# Altium schematic symbol library MGMEZZ04.SchLib: 81 symbols
Pins are listed as number, name and electrical type; pins without a type are passive.

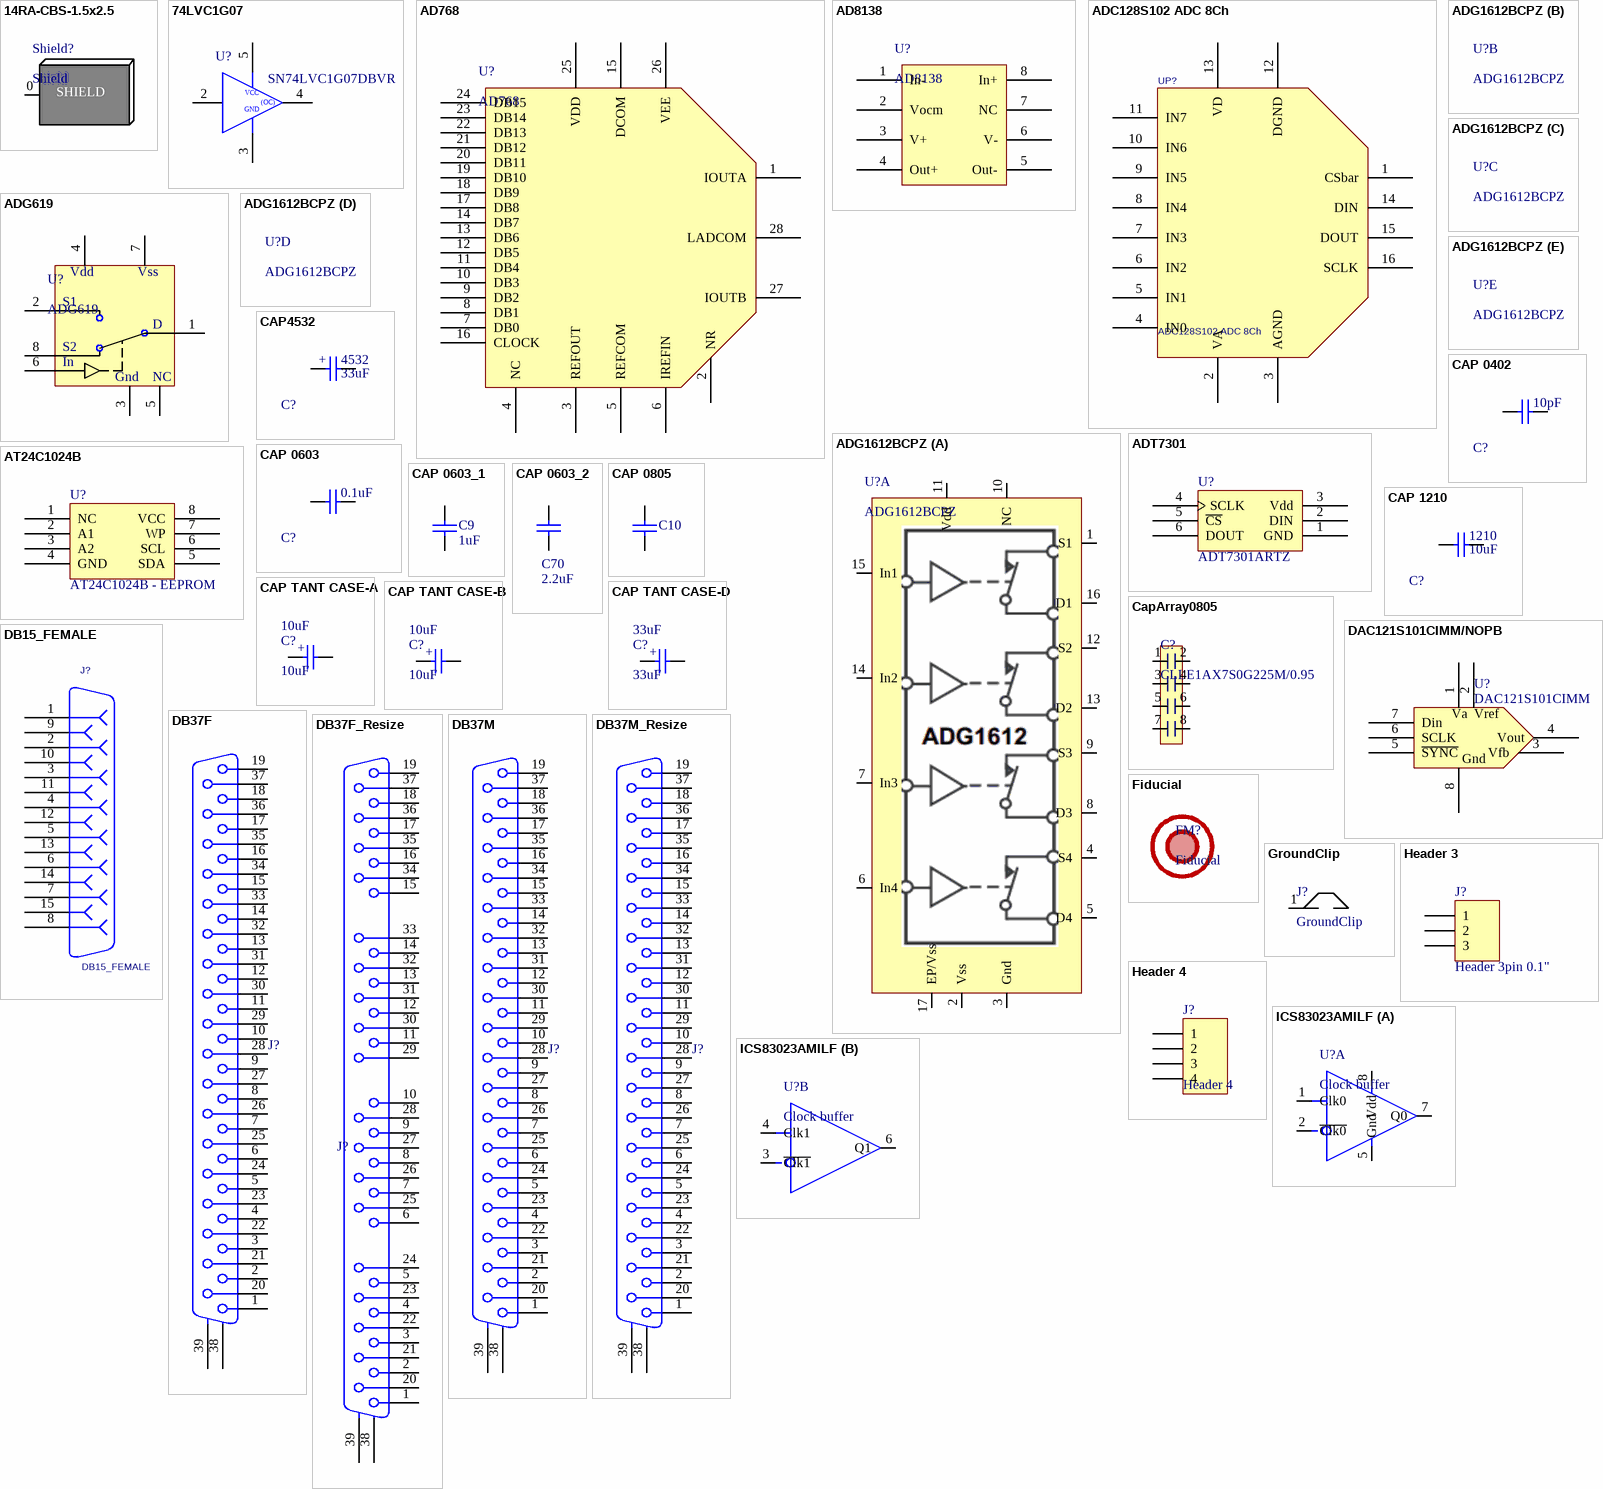
[diagram p0: symbols 14RA-CBS-1.5x2.5 to ICS83023AMILF]

## 14RA-CBS-1.5x2.5
designator Shield?, comment Shield
14RA-CBS-1.5x2.5 Shield (Assembled fence + cover); Manufacturer: Leadertech; Supplier 1: Leadertech; Supplier Part Number 1: 14RA-CBS-1.5x2.5 Shield (Assembled fence + cover); Part Constraints: 14RA-CBS-1.5x2.5 Shield (Assembled fence + cover)
footprint 14RA-CBS-1.5x2.5 Shield
pins: 0 Ground
text: SHIELD

## 74LVC1G07
designator U?  Manufacturers Part Number: SN74LVC1G07DBVR  (hidden comment: 74LVC1G07)
Single  NON-INVERTING BUFFER, Open Drain; Manufacturer: Texas Instruments; Assembly Comments: none; Part Constraints: SN74LVC1G07DBVR; SupplierUnitCost: $0.09; Type: IC; Supplier 1: Digi-Key; Supplier Part Number 1: 296-8485-1-ND
footprint SOT23-5
pins: 2 A, 3 Gnd (power), 4 Y, 5 Vcc (power)
text: VCC; (OC); GND

## AD768
designator U?
DAC 16bit 30MSPS; Manufacturers Part Number: AD768ARZ; Manufacturer: Analog Devices; Assembly Comments: none; Part Constraints: AD768ARZ; Supplier 1: Digi-Key; Supplier Part Number 1: AD768ARZ-ND; Type: IC; SupplierUnitCost: $46.27
footprint SOIC 28 300mils (SOIC, 28-Leads, Body 18.1x7.6mm (max), Pitch 1.27mm, IPC Medium Density)
pins: 1 IOUTA, 2 NR, 3 REFOUT, 4 NC, 5 REFCOM, 6 IREFIN, 7 DB0, 8 DB1, 9 DB2, 10 DB3, 11 DB4, 12 DB5, 13 DB6, 14 DB7, 15 DCOM, 16 CLOCK, 17 DB8, 18 DB9, 19 DB10, 20 DB11, 21 DB12, 22 DB13, 23 DB14, 24 DB15, 25 VDD, 26 VEE, 27 IOUTB, 28 LADCOM

## AD8138
designator U?
IC AMP DIFF LDIST LP 95MA 8SOIC; Manufacturer: Analog Devices Inc; Manufacturers Part Number: AD8138ARZ; Assembly Comments: none; Supplier 1: Digi-Key; RoHS: RoHS Compliant; Category: Integrated Circuits (ICs); Type: IC; Applications: Data Acquisition; Mounting Type: Surface Mount; Package / Case: 8-SOIC (0.154", 3.90mm Width); Supplier Device Package: 8-SOIC; Packaging: Tube; ComponentLink1URL: http://www.analog.com/static/imported-files/data_sheets/AD8138.pdf; ComponentLink1Description: http://www.analog.com/static/imported-files/data_sheets/AD8138.pdf; Part Constraints: AD8138ARZ; SupplierUnitCost: $6.44
footprint SO8
pins: 1 In-, 2 Vocm, 3 V+, 4 Out+, 5 Out-, 6 V-, 7 NC, 8 In+
1 alternate drawing of the same symbol

## ADC128S102 ADC 8Ch
designator UP?
ADC 8CH SPI; Part Constraints: ADC128S102CIMT/NOPB; Manufacturer: National Semiconductor; Assembly Comments: none; Manufacturer Part Number: ADC128S102CIMT/NOPB; Type: Capacitor; SupplierUnitCost: $7.29
footprint TSSOP16
footprint TSSOP16
pins: 1 CSbar, 2 VA, 3 AGND, 4 IN0, 5 IN1, 6 IN2, 7 IN3, 8 IN4, 9 IN5, 10 IN6, 11 IN7, 12 DGND, 13 VD, 14 DIN, 15 DOUT, 16 SCLK

## ADG619
designator U?
SPDT Switch +-5V 4 Ohm on resistance; Manufacturer: Analog Devices; Manufacturers Part Number: ADG619BRTZ; Assembly Comments: none; Part Constraints: ADG619BRTZ; Type: IC; SupplierUnitCost: $3.05
footprint SOT23-8
pins: 1 D, 2 S1, 3 Gnd, 4 Vdd (power), 5 NC (power), 6 In (power), 7 Vss (power), 8 S2
1 alternate drawing of the same symbol

## ADG1612BCPZ
designator U?
Switch 4 SPST-NO - VQFN package; Manufacturer 1: Analog Devices Inc; Manufacturer Part Number 1: ADG1612BCPZ-REEL7; Description 1: IC SWITCH QUAD SPST 16LFCSP; Category 1: Integrated Circuits (ICs); Circuit: 4 x SPST - NO; On-State Resistance: 1.1 Ohm; Voltage Supply Source: Single, Dual Supply; Voltage - Supply, Single/Dual (±): 3.3 V ~ 16 V, ±1.65 V ~ 4 V; Current - Supply: 320µA; Supplier 1: Digi-Key; RoHS 1: RoHS Compliant; Stock 1: 3133; Pricing 1: 1=5.04, 10=4.512, 25=4.0564, 100=3.6894, 250=3.33964, 500=2.98996 (CAD); Function: Switch; Operating Temperature: -40°C ~ 125°C; Mounting Type: Surface Mount; Package / Case: 16-VQFN Exposed Pad, CSP; Supplier Device Package: 16-LFCSP-VQ (4x4); Packaging: Cut Tape (CT); ComponentLink1URL: http://www.analog.com/static/imported-files/data_sheets/ADG1611_1612_1613.pdf; ComponentLink1Description: http://www.analog.com/static/imported-files/data_sheets/ADG1611_1612_1613.pdf; Supplier Part Number 1: ADG1612BCPZ-REEL7CT-ND
footprint QFN127P600-8N (16-VQFN Exposed Pad for ADG1612)
part A pins: 1 S1, 2 Vss, 3 Gnd, 4 S4, 5 D4, 6 In4, 7 In3, 8 D3, 9 S3, 10 NC, 11 Vdd, 12 S2, 13 D2, 14 In2, 15 In1, 16 D1, 17 EP/Vss
1 alternate drawing of the same symbol

## ADT7301
designator U?, comment ADT7301ARTZ
Digital Temperature Sensor, 13-Bit, +/-1 Degree Accurate; Manufacturer: Analog Devices; Assembly Comments: none; Manufacturers Part Number: ADT7301ARTZ; Part Constraints: ADT7301ARTZ; Type: IC; SupplierUnitCost: $3.51
footprint SOT23-6
pins: 1 GND (power), 2 DIN, 3 Vdd (power), 4 SCLK, 5 ~{CS}, 6 DOUT

## AT24C1024B
designator U?, comment AT24C1024B - EEPROM
IC EEPROM 1MBIT 1MHZ 8SOIC; Manufacturers P/N: AT24C1024BN-SH-B; Manufacturer: Atmel; CanPurchaseFrom: Digikey
footprint SO8/L200
pins: 1 NC, 2 A1, 3 A2, 4 GND, 5 SDA, 6 SCL, 7 WP, 8 VCC

## CAP4532
designator C?, comment Footprint: 4532  (hidden comment: 33uF)
33u, 16V, 20%, 4532C, X5R; Type: Capacitor; Assembly Comments: none; Part Constraints: 33u, 16V, 20%, 4532C, X5R; Supplier 1: Digi-Key; Supplier Part Number 1: 445-1443-1-ND; Value: 33uF
footprint TANT4532
pins: 1, 2
text: +

## CAP 0402
designator C?, comment 10pF
Capacitor, Ceramic, 0603; Part Constraints: 10% 16V X7R 0402; Manufacturer: Generic; Assembly Comments: none; Manufacturers Part Number: Generic; Type: Capacitor; SupplierUnitCost: 0; Value: 10pF
footprint 0402
pins: 1, 2

## CAP 0603
designator C?, comment 0.1uF
Capacitor, Ceramic, 0603; Part Constraints: 10% 16V X7R 0603; Manufacturer: Generic; Assembly Comments: none; Manufacturers Part Number: Generic; Type: Capacitor; SupplierUnitCost: 0; Value: 0.1uF
footprint 0603
pins: 1, 2

## CAP 0603_1
designator C9, comment 1uF
Capacitor, Ceramic, 0603; Part Constraints: 10% 16V X7R 0603; Manufacturer: Generic; Assembly Comments: none; Manufacturers Part Number: Generic; Type: Capacitor; SupplierUnitCost: 0; Value: 1uF
footprint 0603
pins: 1, 2

## CAP 0603_2
designator C70, comment 2.2uF
Capacitor, Ceramic, 0603; Part Constraints: 10% 6.3V X5R 0603; Manufacturer: Generic; Manufacturer 1: TDK Corporation; Manufacturer Part Number 1: C1608X5R0J225K080AB; Assembly Comments: none; Description 1: CAP CER 2.2UF 6.3V 10% X5R 0603; Category 1: Capacitors; Capacitance: 2.2µF; Voltage - Rated: 6.3V; Tolerance: ±10%; Temperature Coefficient: X5R; Manufacturers Part Number: Generic; Type: Capacitor; SupplierUnitCost: 0; Supplier 1: Digi-Key; Supplier Part Number 1: 445-5175-1-ND; RoHS 1: RoHS Compliant; Stock 1: 82331; Pricing 1: 1=0.18, 10=0.122, 100=0.0581, 250=0.04884, 500=0.04092, 1000=0.03358 (CAD); Mounting Type: Surface Mount, MLCC; Operating Temperature: -55°C ~ 85°C; Applications: General Purpose; Ratings: -; Package / Case: 0603 (1608 Metric); Size / Dimension: 0.063" L x 0.031" W (1.60mm x 0.80mm); Height - Seated (Max): -; Thickness (Max): 0.037" (0.95mm); Lead Spacing: -; Features: -; Packaging: Cut Tape (CT); Lead Style: -; ComponentLink1URL: http://product.tdk.com/capacitor/mlcc/en/documents/mlcc_commercial_general_en.pdf; ComponentLink1Description: http://product.tdk.com/capacitor/mlcc/en/documents/mlcc_commercial_general_en.pdf; Value: 2.2uF
footprint 0603
pins: 1, 2

## CAP 0805
designator C10, comment 1uF  (value not drawn)
Capacitor, Ceramic, 0805; Manufacturer 1: Kemet; Manufacturer Part Number 1: C0805C105K4RACAUTO; Description 1: CAP CER 1UF 16V 10% X7R 0805; Category 1: Capacitors; Capacitance: 1.0µF; Voltage - Rated: 16V; Tolerance: ±10%; Temperature Coefficient: X7R; Value: 1uF; Supplier 1: Digi-Key; RoHS 1: RoHS Compliant; Stock 1: 15757; Pricing 1: 1=0.2, 10=0.136, 50=0.078, 100=0.0644, 250=0.05424, 500=0.04542, 1000=0.03728 (CAD); Packaging: Cut Tape (CT); Mounting Type: Surface Mount, MLCC; Operating Temperature: -55°C ~ 125°C; Applications: Automotive; Ratings: AEC-Q200; Package / Case: 0805 (2012 Metric); Size / Dimension: 0.079" L x 0.049" W (2.00mm x 1.25mm); Height - Seated (Max): -; Thickness (Max): 0.039" (1.00mm); Lead Spacing: -; Features: -; Lead Style: -; ComponentLink1URL: http://www.kemet.com/datasheets&C0805C105K4RACAUTO; ComponentLink1Description: http://www.kemet.com/datasheets&C0805C105K4RACAUTO; Supplier Part Number 1: 399-6930-1-ND
footprint 0805
pins: 1, 2

## CAP 1210
designator C?, comment Footprint: 1210  (hidden comment: 10uF)
Capacitor, Ceramic, 1210; Manufacturer: AVX Corporation; Part Constraints: 1210 16V X5R; Manufacturers Part Number: 1206YD106KAT2A; Assembly Comments: none; Type: Capacitor; SupplierUnitCost: $0.54; Value: 10uF
footprint CC3225-1210
pins: 1, 2

## CAP TANT CASE-A
designator C?, comment 10uF
TantA Cap; Manufacturer: Generic; Part Constraints: 16V TantA; Type: Capacitor; Assembly Comments: none; Manufacturers Part Number: Generic; SupplierUnitCost: 0; Value: 10uF
footprint TCASE-A
pins: 1, 2
text: +

## CAP TANT CASE-B
designator C?, comment 10uF
TantB Cap; Manufacturer: Generic; Part Constraints: 16V TantB; Type: Capacitor; Assembly Comments: none; Manufacturers Part Number: Generic; SupplierUnitCost: 0; Value: 10uF
footprint TCASE-B
pins: 1, 2
text: +

## CAP TANT CASE-D
designator C?, comment 33uF
TantD Cap; Manufacturer: Generic; Part Constraints: 16V TantD; Type: Capacitor; Assembly Comments: none; Manufacturers Part Number: Generic; SupplierUnitCost: 0; Value: 33uF
footprint TCASE-D
pins: 1, 2
text: +

## CapArray0805
designator C?, comment CLLE1AX7S0G225M/0.95
2.2uFx4 4V 0805 Cap Array; Manufacturer 1: TDK Corporation; Description 1: CAP CER 2.2UF 4V 20% X7S 0805; Category 1: Capacitors; Capacitance: 2.2µF; Tolerance: ±20%; Temperature Coefficient: X7S; Supplier 1: Digi-Key; Manufacturer Part Number 1: CLLE1AX7S0G225M/0.95; RoHS 1: RoHS Compliant; Stock 1: 8739; Pricing 1: 1=0.58, 10=0.505, 100=0.2526, 250=0.20204, 500=0.18402, 1000=0.16597 (CAD); Voltage - Rated: 4V; Mounting Type: Surface Mount, MLCC; Operating Temperature: -55°C ~ 125°C; Applications: Bypass, Decoupling; Ratings: -; Package / Case: 0805 (2012 Metric); Size / Dimension: 0.079" L x 0.049" W (2.00mm x 1.25mm); Height - Seated (Max): -; Thickness (Max): 0.037" (0.95mm); Lead Spacing: -; Features: Low ESL (Multi-Terminal); Packaging: Cut Tape (CT); Lead Style: -; ComponentLink1URL: http://media.digikey.com/pdf/Data%20Sheets/TDK%20PDFs/CLL_UltraLowInduct_B11.pdf; ComponentLink1Description: http://media.digikey.com/pdf/Data%20Sheets/TDK%20PDFs/CLL_UltraLowInduct_B11.pdf; Supplier Part Number 1: 445-3406-1-ND
footprint CLLE1 (Capacitor array)
pins: 1, 2, 3, 4, 5, 6, 7, 8

## DAC121S101CIMM/NOPB
designator U?, comment DAC121S101CIMM
CONV D/A 12BIT MICROPWR 8MSOP; Manufacturer: National Semiconductor; Part Constraints: DAC121S101CIMM/NOPB; Settling Time: 12µs; Number of Bits: 12; Data Interface: DSP, MICROWIRE™, QSPI™, Serial, SPI™; Number of Converters: 1; Voltage Supply Source: Single Supply; Power Dissipation (Max): 1.72mW; Number of Outputs and Type: 1 Voltage, Unipolar; 1 Voltage, Bipolar; Assembly Comments: none; RoHS: RoHS Compliant; Category: Integrated Circuits (ICs); Stock 1: 3011; Pricing 1: 1=3.5, 25=2.8616, 100=2.5698, 250=2.33624, 500=2.0442 (CAD); Operating Temperature: -40°C ~ 105°C; Mounting Type: Surface Mount; Package / Case: 8-TSSOP, 8-MSOP (0.118", 3.00mm Width); Supplier Device Package: 8-MSOP; Packaging: Cut Tape (CT); Sampling Rate (Per Second): *; ComponentLink1URL: http://www.ti.com/lit/ds/symlink/dac121s101.pdf; ComponentLink1Description: http://www.ti.com/lit/ds/symlink/dac121s101.pdf; Supplier 1: Digi-Key; Supplier Part Number 1: DAC121S101CIMMCT-ND; Manufacturers Part Number: DAC121S101CIMM/NOPB; Type: IC; SupplierUnitCost: $3.70
footprint MSOP-8
pins: 1 Va, 2 NC hidden, 2 Vref, 3 NC hidden, 3 Vfb, 4 Vout, 5 ~{SYNC}, 6 SCLK, 7 Din, 8 Gnd
1 alternate drawing of the same symbol

## DB15_FEMALE
designator J?
Part Constraints: 182-015-213R181; Manufacturer: Norcomp; Assembly Comments: none; Manufacturers Part Number: 182-015-213R181; Supplier 1: Digi-Key; Supplier Part Number 1: 182-815FE-ND
footprint DSUB/RS.318/TM/15
pins: 1 p1, 2 p2, 3 p3, 4 p4, 5 p5, 6 p6, 7 p7, 8 p8, 9 p9, 10 p10, 11 p11, 12 p12, 13 p13, 14 p14, 15 p15

## DB37F
designator J?
DB37F; Assembly Comments: none; Manufacturers Part Number: DB37F; Type: Connector; SupplierUnitCost: $3.49
footprint DSUB37-F (DSUB 37Pin Female)
pins: 1, 2, 3, 4, 5, 6, 7, 8, 9, 10, 11, 12, 13, 14, 15, 16, 17, 18, 19, 20, 21, 22, 23, 24, 25, 26, 27, 28, 29, 30, 31, 32, 33, 34, 35, 36, 37, 38 MH1, 39 MH2
1 alternate drawing of the same symbol

## DB37F_Resize
designator J?
DB37F; Assembly Comments: none; Manufacturers Part Number: DB37F; Type: Connector; SupplierUnitCost: $7.93
footprint DSUB37-F (DSUB 37Pin Female)
footprint DSUB37-F (590mils) (DSUB 37Pin Female - 590mils from board edge to first pin)
pins: 1, 2, 3, 4, 5, 6, 7, 8, 9, 10, 11, 12, 13, 14, 15, 16, 17, 18, 19, 20, 21, 22, 23, 24, 25, 26, 27, 28, 29, 30, 31, 32, 33, 34, 35, 36, 37, 38 MH1, 39 MH2
1 alternate drawing of the same symbol

## DB37M
designator J?
DB37M; Assembly Comments: none; Manufacturers Part Number: DB37M; Type: Connector; SupplierUnitCost: $3.35
footprint DSUB37-M (DSUB 37Pin Male)
pins: 1, 2, 3, 4, 5, 6, 7, 8, 9, 10, 11, 12, 13, 14, 15, 16, 17, 18, 19, 20, 21, 22, 23, 24, 25, 26, 27, 28, 29, 30, 31, 32, 33, 34, 35, 36, 37, 38 MH1, 39 MH2
1 alternate drawing of the same symbol

## DB37M_Resize
designator J?
DB37M; Assembly Comments: none; Manufacturers Part Number: DB37M; Type: Connector; SupplierUnitCost: $7.93
footprint DSUB37-M (DSUB 37Pin Male)
footprint DSUB37-M (590mils) (DSUB 37Pin Male - 590mils from board edge to first pin)
pins: 1, 2, 3, 4, 5, 6, 7, 8, 9, 10, 11, 12, 13, 14, 15, 16, 17, 18, 19, 20, 21, 22, 23, 24, 25, 26, 27, 28, 29, 30, 31, 32, 33, 34, 35, 36, 37, 38 MH1, 39 MH2
1 alternate drawing of the same symbol

## Fiducial
designator FM?
Assembly Comments: none; Type: Fiducial; SupplierUnitCost: 0
footprint Fiducial_mark

## GroundClip
designator J?
Ground Clip point; Manufacturer: Keystone Electronics; Manufacturers Part Number: 5015; Assembly Comments: none; Part Constraints: 5015; SupplierUnitCost: $0.53; Type: Ground clip point; Supplier 1: Digi-Key; Supplier Part Number 1: 5015KCT-ND
footprint GroundClip (GroundClipPoint)
pins: 1

## Header 3
designator J?, comment Header 3pin 0.1"
Header, 0.1"  3-Pin straight (Any equivalent - may need to be value added); Manufacturers Part Number: Generic; Assembly Comments: none; Type: Header; SupplierUnitCost: 0
footprint HDR1X3
signal-integrity model Connector
pins: 1, 2, 3

## Header 4
designator J?
Header, 0.1"  4-Pin straight; Manufacturers Part Number: Generic; Assembly Comments: none; Type: Header; SupplierUnitCost: 0
signal-integrity model Connector
footprint HDR1X4
footprint CON4M
pins: 1, 2, 3, 4

## ICS83023AMILF
designator U?, comment Clock buffer
LVDS to single ended; Manufacturer 1: IDT, Integrated Device Technology Inc; Manufacturer Part Number 1: ICS83023AMILF; Description 1: IC CLK TRANSLTR 1:1 350MHZ 8SOIC; Category 1: Integrated Circuits (ICs); Number of Circuits: 2; Ratio - Input:Output: 1:1; Differential - Input:Output: Yes/No; Input: HCSL, LVDS, LVHSTL, LVPECL, SSTL; Output: LVCMOS, LVTTL; Frequency - Max: 350MHz; Voltage - Supply: 3 V ~ 3.6 V; Supplier 1: Digi-Key; RoHS 1: RoHS Compliant; Stock 1: 286; Pricing 1: 1=5.9, 25=4.742, 100=4.3205, 250=3.899, 500=3.49854, 1000=2.95057, 2500=2.80305, 5000=2.68713, 10000=2.61337 (CAD); Type: Translator; Operating Temperature: -40°C ~ 85°C; Mounting Type: Surface Mount; Package / Case: 8-SOIC (0.154", 3.90mm Width); Supplier Device Package: 8-SOIC; Packaging: Tube; ComponentLink1URL: http://www.idt.com/document/83023i-datasheet-0; ComponentLink1Description: http://www.idt.com/document/83023i-datasheet-0; Supplier Part Number 1: 800-1102-5-ND
footprint SO8
part A pins: 1 Clk0, 2 ~{Clk0}, 5 Gnd, 7 Q0, 8 Vdd
part B pins: 3 ~{Clk1}, 4 Clk1, 6 Q1

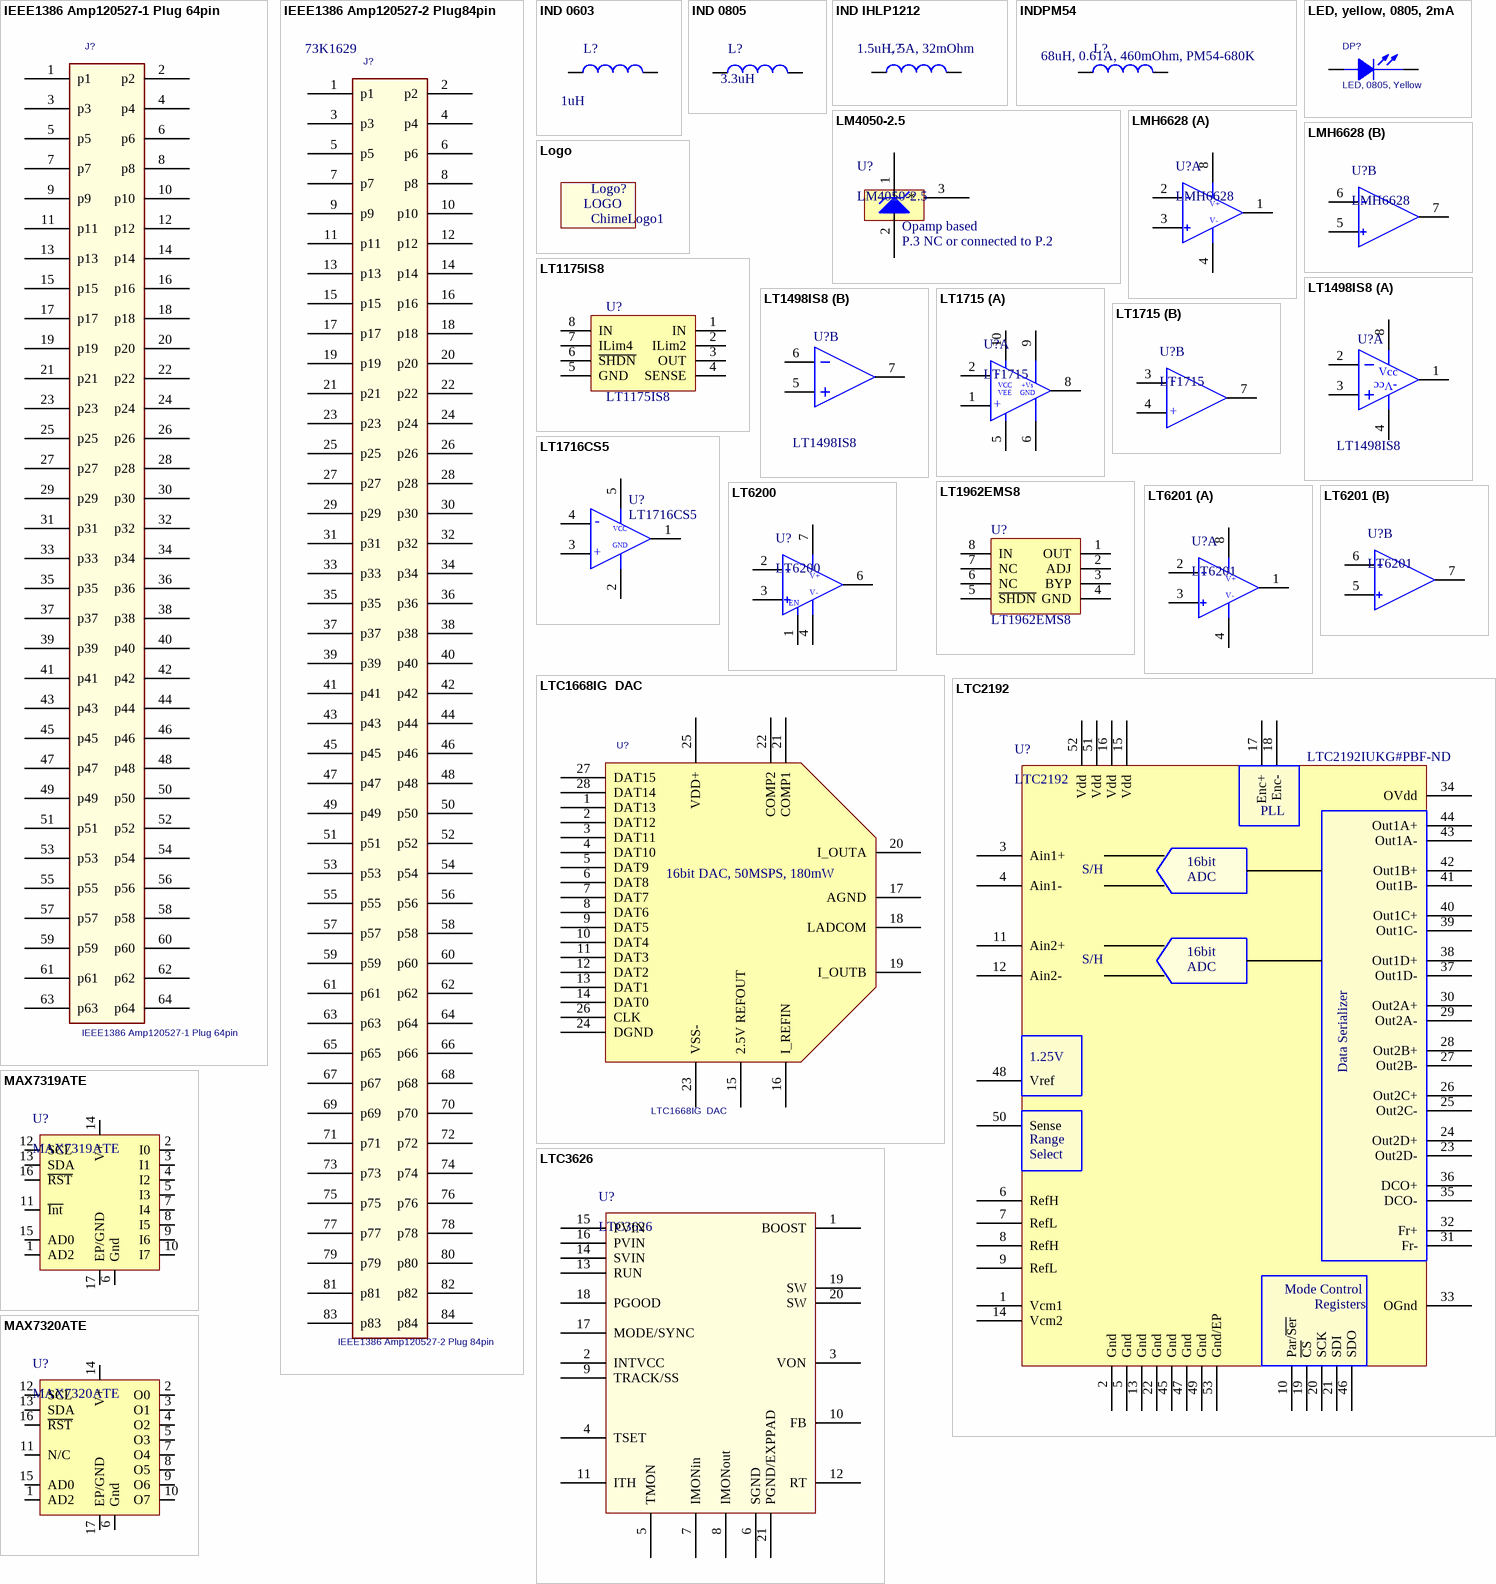
[diagram p1: symbols IEEE1386 Amp120527-1 Plug 64pin to MAX7320ATE]

## IEEE1386 Amp120527-1 Plug 64pin
designator J?
Manufacturer: TE Connectivity; Assembly Comments: none; Supplier 1: Digi-Key; Supplier Part Number 1: 120527-1-ND; Part Constraints: 120527-1; Manufacturers Part Number: 120527-1; Type: Connector
footprint CON_AMP_1MM_64PINS
pins: 1 p1, 2 p2, 3 p3, 4 p4, 5 p5, 6 p6, 7 p7, 8 p8, 9 p9, 10 p10, 11 p11, 12 p12, 13 p13, 14 p14, 15 p15, 16 p16, 17 p17, 18 p18, 19 p19, 20 p20, 21 p21, 22 p22, 23 p23, 24 p24, 25 p25, 26 p26, 27 p27, 28 p28, 29 p29, 30 p30, 31 p31, 32 p32, 33 p33, 34 p34, 35 p35, 36 p36, 37 p37, 38 p38, 39 p39, 40 p40, 41 p41, 42 p42, 43 p43, 44 p44, 45 p45, 46 p46, 47 p47, 48 p48, 49 p49, 50 p50, 51 p51, 52 p52, 53 p53, 54 p54, 55 p55, 56 p56, 57 p57, 58 p58, 59 p59, 60 p60, 61 p61, 62 p62, 63 p63, 64 p64

## IEEE1386 Amp120527-2 Plug84pin
designator J?, comment IEEE1386 Amp120527-2 Plug 84pin  Supplier Part Number 1: 73K1629
Part Constraints: 5120527-2; Manufacturer: TE CONNECTIVITY / AMP; Assembly Comments: none; Manufacturers Part Number: 5120527-2; Type: Connector; Supplier 1: Newark
footprint CON_AMP_1MM_84PINS
pins: 1 p1, 2 p2, 3 p3, 4 p4, 5 p5, 6 p6, 7 p7, 8 p8, 9 p9, 10 p10, 11 p11, 12 p12, 13 p13, 14 p14, 15 p15, 16 p16, 17 p17, 18 p18, 19 p19, 20 p20, 21 p21, 22 p22, 23 p23, 24 p24, 25 p25, 26 p26, 27 p27, 28 p28, 29 p29, 30 p30, 31 p31, 32 p32, 33 p33, 34 p34, 35 p35, 36 p36, 37 p37, 38 p38, 39 p39, 40 p40, 41 p41, 42 p42, 43 p43, 44 p44, 45 p45, 46 p46, 47 p47, 48 p48, 49 p49, 50 p50, 51 p51, 52 p52, 53 p53, 54 p54, 55 p55, 56 p56, 57 p57, 58 p58, 59 p59, 60 p60, 61 p61, 62 p62, 63 p63, 64 p64, 65 p65, 66 p66, 67 p67, 68 p68, 69 p69, 70 p70, 71 p71, 72 p72, 73 p73, 74 p74, 75 p75, 76 p76, 77 p77, 78 p78, 79 p79, 80 p80, 81 p81, 82 p82, 83 p83, 84 p84

## IND 0603
designator L?, comment 1uH
Inductor 0603; Manufacturer: Generic; Part Constraints: 100mA 0603; Assembly Comments: none; Footprint: 0603; Manufacturers Part Number: Generic; Type: Inductor; SupplierUnitCost: 0; Value: 1uH
footprint 0603
pins: 1, 2

## IND 0805
designator L?, comment 3.3uH
Inductor 0805; Manufacturer: Coilcraft; Manufacturers Part Number: 0805AF-332; Part Constraints: 3.3uH, 1.2Ohms DRC, 85Mhz SRF, Irms 0.33A; Assembly Comments: none; Footprint: 0805; Type: Inductor; SupplierUnitCost: $0.43; Value: 3.3uH
footprint 0805
pins: 1, 2

## IND IHLP1212
designator L?, comment Part Constraints: 1.5uH, 5A, 32mOhm  (hidden comment: 1.5uH)
Inductor IHLP1212; Manufacturer: Vishay Dale; Manufacturers Part Number: IHLP1212BZER1R5M11; Assembly Comments: none; Footprint: IHLP1212; Type: Inductor; SupplierUnitCost: $1.30; Value: 1.5uH; Supplier 1: Digi-Key; Supplier Part Number 1: 541-1321-1-ND
footprint IHLP-1212 (Inductor)
pins: 1, 2

## INDPM54
designator L?, comment Part Constraints: 68uH, 0.61A, 460mOhm, PM54-680K  (hidden comment: 68uH)
Inductor PM54; Manufacturer: Bourns Inc.; Manufacturers Part Number: PM54-680K; Assembly Comments: none; Footprint: PM54; Type: Inductor; SupplierUnitCost: $1.12; Supplier 1: Digi-Key; Supplier Part Number 1: M8524CT-ND; Value: 68uH
footprint CHOKEPM54
pins: 1, 2

## LED, yellow, 0805, 2mA
designator DP?, comment LED, 0805, Yellow
LED; Part Constraints: 511-1293-1-ND; Manufacturer: Rohm Semiconductor; Manufacturers Part Number: SML-211YTT86; Assembly Comments: none; Supplier 1: Digi-Key; Supplier Part Number 1: 511-1293-1-ND; Type: LED; SupplierUnitCost: $0.64
footprint 0805L
pins: 1 ANODE, 2 CATHODE

## LM4050-2.5
designator U?
IC VREF SHUNT PREC 2.5V SOT-23-3; Manufacturer: National Semiconductor; Manufacturer Part Number: LM4050CIM3-2.5/NOPB; Reference Type: Shunt, Precision; Tolerance: ±0.5%; Temperature Coefficient: 50ppm/°C; Number of Channels: 1; Current - Cathode: 65µA; Current - Output: 15mA; Supplier 1: Digi-Key; RoHS: RoHS Compliant; Category: Integrated Circuits (ICs); Stock 1: 2606; Pricing 1: 1=2.78, 25=2.144, 100=1.9456, 250=1.74704, 500=1.5088 (CAD); Voltage - Output: 2.5V; Voltage - Input: -; Current - Quiescent: -; Operating Temperature: -40°C ~ 85°C; Mounting Type: Surface Mount; Package / Case: TO-236-3, SC-59, SOT-23-3; Supplier Device Package: SOT-23-3; Packaging: Digi-Reel®; ComponentLink1URL: http://www.ti.com/lit/ds/symlink/lm4050-n.pdf; ComponentLink1Description: http://www.ti.com/lit/ds/symlink/lm4050-n.pdf
footprint SOT23
pins: 1 +, 2 -, 3 *
text: Opamp based; P.3 NC or connected to P.2

## LMH6628
designator U?
Dual Opamp 200Mhz GBP Soic 8; Part Constraints: LMH6628MA/NOPB; Manufacturer: National Semiconductor; Assembly Comments: none; Manufacturers Part Number: LMH6628MA/NOPB; Type: IC; SupplierUnitCost: $4.44; Supplier 1: Digi-Key; Supplier Part Number 1: LMH6628MA-ND
footprint SO8
part A pins: 1 Out, 2 IN-, 3 IN+, 4 V- (power), 8 V+ (power)
part B pins: 5 IN+, 6 IN-, 7 Out

## Logo
designator Logo?, comment ChimeLogo1  (no BOM)
footprint ChimeLogo1
text: LOGO

## LT1175IS8
designator U?
REG, negative micropower low dropout; Manufacturer: Linear Technology; Manufacturers Part Number: LT1175IS8#PBF; Part Constraints: LT1175IS8; Supplier 1: Digi-Key; Supplier Part Number 1: LT1175IS8#PBF-ND
footprint SO8
pins: 1 IN (power), 2 ILim2, 3 OUT, 4 SENSE (power), 5 GND, 6 ~{SHDN}, 7 ILim4, 8 IN (power)

## LT1498IS8
designator U?
IC OP AMP DUAL 2CH LN 8-SOIC; Manufacturer: Linear Technology; Manufacturers Part Number: LT1498IS8#PBF; Number of Circuits: 2; Assembly Comments: none; Output Type: -; Mounting Type: Surface Mount; Package / Case: 8-SOIC (0.154", 3.90mm Width); Supplier Device Package: 8-SOIC; Part Constraints: LT1498IS8; Type: IC; Supplier 1: Digi-Key; Supplier Part Number 1: LT1498IS8#PBF-ND
footprint SO8
part A pins: 1 OUT, 2 IN-, 3 IN+, 4 GND, 8 VDD
part B pins: 5 IN+, 6 IN-, 7 OUT
part A text: Vcc; -Vcc

## LT1715
designator U?
Comparator with two supplies; Manufacturer 1: Linear Technology; Manufacturer Part Number 1: LT1715IMS#PBF; Description 1: IC COMPARATOR 150MHZ DUAL 10MSOP; Category 1: Integrated Circuits (ICs); Number of Elements: 2; Output Type: CMOS, Rail-to-Rail, TTL; Voltage - Supply, Single/Dual (±): 2.7 V ~ 12 V; Voltage - Input Offset (Max): 2.5mV @ ±5V; Current - Input Bias (Max): 6µA @ ±5V; Current - Output (Typ): 20mA; Current - Quiescent (Max): 2mA; CMRR, PSRR (Typ): 70dB CMRR, 80dB PSRR; Propagation Delay (Max): 9ns; Hysteresis: 6mV; Supplier 1: Digi-Key; RoHS 1: RoHS Compliant; Stock 1: 197; Pricing 1: 1=8.65, 25=5.7412, 100=4.5517 (CAD); Type: General Purpose; Operating Temperature: -40°C ~ 85°C; Package / Case: 10-TFSOP, 10-MSOP (0.118", 3.00mm Width); Mounting Type: Surface Mount; Packaging: Tube; Supplier Device Package: 10-MSOP; ComponentLink1URL: http://www.linear.com/docs/2821; ComponentLink1Description: http://www.linear.com/docs/2821; Supplier Part Number 1: LT1715IMS#PBF-ND
part A pins: 1 +, 2 - (power), 5 Vee (power), 6 Gnd (power), 8 Out, 9 Vs (power), 10 Vcc (power)
part B pins: 3 - (power), 4 +, 7 Out
part A text: VCC; +Vs; VEE; GND

## LT1716CS5
designator U?
Comparator 2.7V to 44V rail to rail; Manufacturer: Linear Technology; Part Constraints: LT1716CS5#TRMPBF; Assembly Comments: none; Manufacturers Part Number: LT1716CS5#TRMPBF; SupplierUnitCost: $2.75; Type: IC; Supplier 1: Digi-Key; Supplier Part Number 1: LT1716CS5#TRMPBFCT-ND
footprint SOT23-5
pins: 1 Out, 2 A, 3 +, 4 - (power), 5 Vcc (power)
text: VCC; GND

## LT1962EMS8
designator U?
REG, micropower, low noise, low  dropout; Manufacturer: Linear Technology; Manufacturers Part Number: LT1962EMS8#PBF; Part Constraints: LT1962EMS8; Supplier 1: Digi-Key; Supplier Part Number 1: LT1962EMS8#PBF-ND
footprint MSOP-8
pins: 1 OUT (power), 2 ADJ, 3 BYP, 4 GND (power), 5 ~{SHDN}, 6 NC, 7 NC, 8 IN (power)

## LT6200
designator U?
IC OPAMP R-R I/O 165MHZ 8-SOIC; Manufacturer: Linear Technology; Manufacturers Part Number: LT6200CS8#PBF; Amplifier Type: Buffer; Number of Circuits: 1; Output Type: Rail-to-Rail; Slew Rate: 50 V/µs; Current - Input Bias: 23µA; Voltage - Input Offset: 2500µV; Current - Supply: 20mA; Current - Output / Channel: 90mA; Voltage - Supply, Single/Dual (±): 2.5 V ~ 12.6 V, ±1.25 V ~ 6.3 V; Assembly Comments: none; RoHS: RoHS Compliant; Category: Integrated Circuits (ICs); Gain Bandwidth Product: 165MHz; -3db Bandwidth: -; Operating Temperature: 0°C ~ 70°C; Mounting Type: Surface Mount; Package / Case: 8-SOIC (0.154", 3.90mm Width); Supplier Device Package: 8-SO; Packaging: Tube; ComponentLink1URL: http://www.linear.com/docs/3869; ComponentLink1Description: http://www.linear.com/docs/3869; Part Constraints: LT6200CS8#PBF; Supplier 1: Digi-Key; Supplier Part Number 1: LT6200CS8#PBF-ND; Type: IC; SupplierUnitCost: $4.91
footprint SO8
pins: 1 SHDN, 2 IN-, 3 IN+, 4 V- (power), 6 OUT-, 7 V+ (power)
1 alternate drawing of the same symbol
text: EN

## LT6201
designator U?
Dual R-R Opamp Soic 8 165Mhz GBP; Part Constraints: LT6201CS8#PBF; Manufacturer: Linear Technology; Assembly Comments: none; Supplier 1: Digi-Key; Supplier Part Number 1: LT6201CS8#PBF-ND; Manufacturers Part Number: LT6201CS8#PBF; Type: IC; SupplierUnitCost: $8.27
footprint SO8
part A pins: 1 Out, 2 IN-, 3 IN+, 4 V- (power), 8 V+ (power)
part B pins: 5 IN+, 6 IN-, 7 Out

## LTC1668IG  DAC
designator U?
Manufacturer 1: Linear Technology; Description 1: IC DAC 16BIT 50MSPS 28SSOP; Category 1: Integrated Circuits (ICs); Settling Time: 20ns; Number of Bits: 16; Data Interface: Parallel; Number of Converters: 1; Voltage Supply Source: Dual ±; Power Dissipation (Max): 180mW; Number of Outputs and Type: 2 Current, Unipolar; Sampling Rate (Per Second): 50M; Supplier 1: Digi-Key; Manufacturer Part Number 1: LTC1668IG; RoHS 1: RoHS non-compliant; Stock 1: 0; Pricing 1: 423=17.71194 (CAD); Operating Temperature: -40°C ~ 85°C; Mounting Type: Surface Mount; Package / Case: 28-SSOP (0.209", 5.30mm Width); Supplier Device Package: 28-SSOP; Packaging: Tube; ComponentLink1URL: http://www.linear.com/docs/1839; ComponentLink1Description: http://www.linear.com/docs/1839; Supplier Part Number 1: LTC1668IG-ND
footprint ssop28
footprint SOG.65M/28/WG8.20/L10.16
footprint SOG.65M/28/WG8.20/L10.16 (Footprint not found)
pins: 1 DAT13, 2 DAT12, 3 DAT11, 4 DAT10, 5 DAT9, 6 DAT8, 7 DAT7, 8 DAT6, 9 DAT5, 10 DAT4, 11 DAT3, 12 DAT2, 13 DAT1, 14 DAT0, 15 2.5V REFOUT, 16 I_REFIN, 17 AGND, 18 LADCOM, 19 I_OUTB, 20 I_OUTA, 21 COMP1, 22 COMP2, 23 VSS-, 24 DGND, 25 VDD+, 26 CLK, 27 DAT15, 28 DAT14
text: 16bit DAC, 50MSPS, 180mW

## LTC2192
designator U?  Supplier Part Number 1: LTC2192IUKG#PBF-ND
LTC2192 -ADC; Manufacturer 1: Linear Technology; Manufacturer Part Number 1: LTC2192IUKG#PBF; Description 1: IC ADC 16BIT PAR/SRL 65MSP 52QFN; Category 1: Integrated Circuits (ICs); Number of Bits: 16; Sampling Rate (Per Second): 65M; Data Interface: Serial LVDS; Number of Converters: 2; Power Dissipation (Max): 281mW; Voltage Supply Source: Analog and Digital; Number of Inputs and Type: 2 Differential; 2 Single-Ended; Supplier 1: Digi-Key; RoHS 1: RoHS Compliant; Stock 1: 35; Pricing 1: 1=124.01, 100=105.4097 (CAD); Operating Temperature: -40°C ~ 85°C; Mounting Type: Surface Mount; Package / Case: 52-WFQFN Exposed Pad; Supplier Device Package: 52-QFN (7x8); Packaging: Tube; ComponentLink1URL: http://www.linear.com/docs/30021; ComponentLink1Description: http://www.linear.com/docs/30021
footprint QFN50P800X700X80_HS-53N (QFN, 52-Leads, Body 8.00x7.00mm, Pitch 0.50mm, Thermal Pad 6.45x5.41mm, IPC Medium Density)
pins: 1 Vcm1, 2 Gnd, 3 Ain1+, 4 Ain1-, 5 Gnd, 6 RefH, 7 RefL, 8 RefH, 9 RefL, 10 Par/~{Ser}, 11 Ain2+, 12 Ain2-, 13 Gnd, 14 Vcm2, 15 Vdd, 16 Vdd, 17 Enc+, 18 Enc-, 19 ~{CS}, 20 SCK, 21 SDI, 22 Gnd, 23 Out2D-, 24 Out2D+, 25 Out2C-, 26 Out2C+, 27 Out2B-, 28 Out2B+, 29 Out2A-, 30 Out2A+, 31 Fr-, 32 Fr+, 33 OGnd, 34 OVdd, 35 DCO-, 36 DCO+, 37 Out1D-, 38 Out1D+, 39 Out1C-, 40 Out1C+, 41 Out1B-, 42 Out1B+, 43 Out1A-, 44 Out1A+, 45 Gnd, 46 SDO, 47 Gnd, 48 Vref, 49 Gnd, 50 Sense, 51 Vdd, 52 Vdd, 53 Gnd/EP
text: PLL; 16bit; S/H; ADC; 1.25V; Data Serializer; Range; Select; Mode Control; Registers

## LTC3626
designator U?
20V, 2.5A Sync buck, 3Mhz; Part Constraints: LTC3626EUDC#PBF; Manufacturer: Linear Technology; Assembly Comments: none; Supplier 1: Digi-Key; Supplier Part Number 1: LTC3626EUDC#PBF-ND; Manufacturers Part Number: LTC3626EUDC#PBF; Type: IC; SupplierUnitCost: $8.10
footprint LTC3626 (QFN, 20-Leads, Body 4.1x3.1mm (max), Pitch 0.50mm, IPC Medium Density)
pins: 1 BOOST, 2 INTVCC, 3 VON, 4 TSET, 5 TMON, 6 SGND, 7 IMONin, 8 IMONout, 9 TRACK/SS, 10 FB, 11 ITH, 12 RT, 13 RUN, 14 SVIN, 15 PVIN, 16 PVIN, 17 MODE/SYNC, 18 PGOOD, 19 SW, 20 SW, 21 PGND/EXPPAD

## MAX7319ATE
designator U?
IO expander 8bit I2C; Manufacturer 1: Maxim Integrated; Manufacturer Part Number 1: MAX7319ATE+; Description 1: IC I/O EXPANDER I2C 8B 16TQFN-EP; Category 1: Integrated Circuits (ICs); Interface: I²C; Number of I /O: 8; Interrupt Output: Yes; Frequency - Clock: 400kHz; Voltage - Supply: 1.71 V ~ 5.5 V; Supplier 1: Digi-Key; RoHS 1: RoHS Compliant; Stock 1: 212; Pricing 1: 1=4.53, 25=3.1752, 100=2.298, 500=2.02412 (CAD); Operating Temperature: -40°C ~ 125°C; Mounting Type: Surface Mount; Package / Case: 16-WFQFN Exposed Pad; Supplier Device Package: 16-TQFN-EP (3x3); Packaging: Tube; Includes: -; ComponentLink1URL: http://datasheets.maximintegrated.com/en/ds/MAX7319.pdf; ComponentLink1Description: http://datasheets.maximintegrated.com/en/ds/MAX7319.pdf; Supplier Part Number 1: MAX7319ATE+-ND
footprint QFN127P600-8N-MAX7319 (Drawn for MAX7319ATE+)
pins: 1 AD2, 2 I0, 3 I1, 4 I2, 5 I3, 6 Gnd, 7 I4, 8 I5, 9 I6, 10 I7, 11 ~{Int}, 12 SCL, 13 SDA, 14 V+, 15 AD0, 16 ~{RST}, 17 EP/GND

## MAX7320ATE
designator U?
IO expander 8bit I2C; Manufacturer 1: Maxim Integrated; Manufacturer Part Number 1: MAX7320ATE+; Description 1: IC I/O EXPANDER I2C 8B 16TQFN-EP; Category 1: Integrated Circuits (ICs); Interface: I²C; Number of I /O: 8; Interrupt Output: No; Frequency - Clock: 400kHz; Voltage - Supply: 1.71 V ~ 5.5 V; Includes: POR; Supplier 1: Digi-Key; RoHS 1: RoHS Compliant; Stock 1: 66; Pricing 1: 1=4.39, 25=3.0828, 100=2.2302, 500=1.96538 (CAD); Packaging: Tube; Operating Temperature: -40°C ~ 125°C; Mounting Type: Surface Mount; Package / Case: 16-WFQFN Exposed Pad; Supplier Device Package: 16-TQFN-EP (3x3); ComponentLink1URL: http://datasheets.maximintegrated.com/en/ds/MAX7320.pdf; ComponentLink1Description: http://datasheets.maximintegrated.com/en/ds/MAX7320.pdf; Supplier Part Number 1: MAX7320ATE+-ND
footprint QFN127P600-8N-MAX7319 (Drawn for MAX7319ATE+)
pins: 1 AD2, 2 O0, 3 O1, 4 O2, 5 O3, 6 Gnd, 7 O4, 8 O5, 9 O6, 10 O7, 11 N/C, 12 SCL, 13 SDA, 14 V+, 15 AD0, 16 ~{RST}, 17 EP/GND

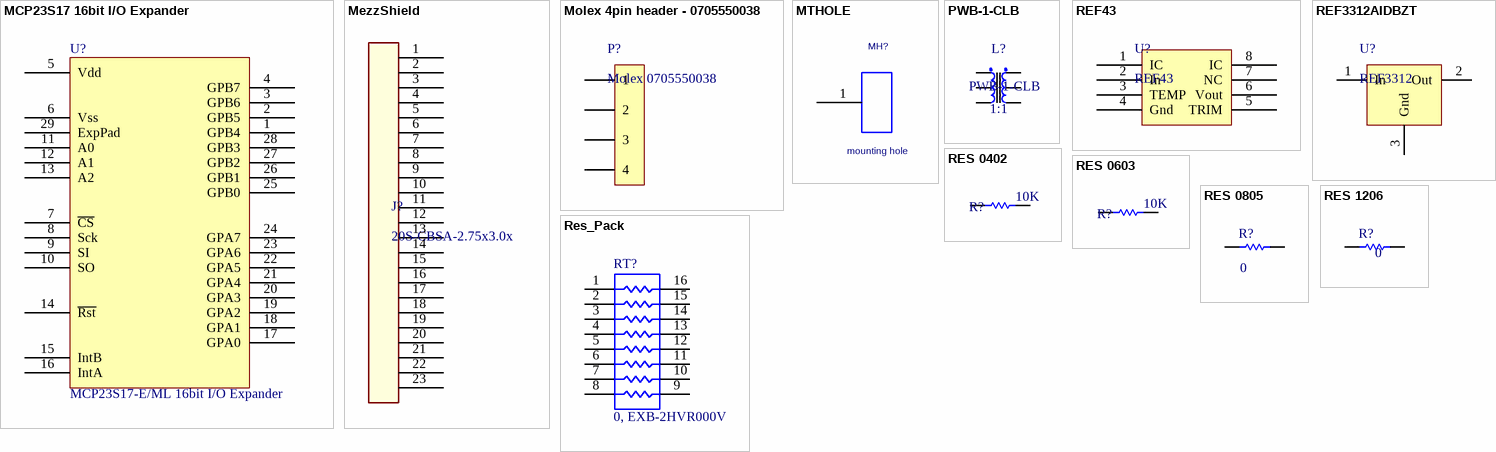
[diagram p2: symbols MCP23S17 16bit I/O Expander to Res_Pack]

## MCP23S17 16bit I/O Expander
designator U?, comment MCP23S17-E/ML 16bit I/O Expander
IC I/O EXPANDER SPI 16B 28QFN; Manufacturer: Microchip Technology; CanPurchaseFrom: Digikey; Manufacturers P/N: MCP23S17-E/ML
footprint QFN65P600X600X100-28M
pins: 1 GPB4, 2 GPB5, 3 GPB6, 4 GPB7, 5 Vdd, 6 Vss, 7 ~{CS}, 8 Sck, 9 SI, 10 SO, 11 A0, 12 A1, 13 A2, 14 ~{Rst}, 15 IntB, 16 IntA, 17 GPA0, 18 GPA1, 19 GPA2, 20 GPA3, 21 GPA4, 22 GPA5, 23 GPA6, 24 GPA7, 25 GPB0, 26 GPB1, 27 GPB2, 28 GPB3, 29 ExpPad

## MezzShield
designator J?, comment 20S-CBSA-2.75x3.0x
footprint SHIELD 2.75X3.00
pins: 1, 2, 3, 4, 5, 6, 7, 8, 9, 10, 11, 12, 13, 14, 15, 16, 17, 18, 19, 20, 21, 22, 23

## Molex 4pin header - 0705550038
designator P?, comment Molex 0705550038
Molex 4pin header - 0705550038; Assembly comments: none; CanPurchaseFrom: Digikey; Cost: $1.30; Manufacturer: Molex; ManufPartNumber: 0705550038; Package Description: Connector; PartConstraints: 0705550038
footprint Molex0705550038
pins: 1, 2, 3, 4

## MTHOLE
designator MH?, comment mounting hole
footprint MTHOLE.125
pins: 1 A

## PWB-1-CLB
designator L?
Transformer; Manufacturer: Coil Craft; Assembly Comments: none; Manufacturers Part Number: PWB-1-CLB; Part Constraints: PWB-1-CLB; Supplier 1: Coil Craft; Supplier Part Number 1: PWB-1-CLB; SupplierUnitCost: $3.25
footprint PWB (Transformer - Coilcraft)
pins: 1 PrimDot, 2 PrimCent, 3 Prim, 4 Sec, 5 SecCent, 6 SecDot
text: 1:1

## REF43
designator U?
Voltage Referance; Part Constraints: REF43GSZ; Manufacturer: Analog Devices; Assembly Comments: none; Manufacturers Part Number: REF43GSZ; SupplierUnitCost: $9.87; Supplier 1: Digi-Key; Supplier Part Number 1: REF43GSZ-ND
footprint SO8
pins: 1 IC, 2 In, 3 TEMP, 4 Gnd, 5 TRIM, 6 Vout, 7 NC, 8 IC

## REF3312AIDBZT
designator U?, comment REF3312
Vref 1.25V , +-0.15%, 5mA Output, SOT-23-3; Manufacturer: Texas Instruments; Manufacturers Part Number: REF3312AIDBZT; Part Constraints: REF3312AIDBZT; Type: IC; Supplier 1: Digi-Key; Supplier Part Number 1: 296-22635-6-ND
footprint SOT23
pins: 1 In, 2 Out, 3 Gnd

## RES 0402
designator R?, comment 10K
Resistor; Manufacturer: Generic; Part Constraints: 1% 1/10W 100ppm 0402; Assembly Comments: none; Footprint: 0402; Manufacturers Part Number: Generic; Type: Resistor; SupplierUnitCost: 0; Value: 10K
footprint 0402
pins: 1 1 , 2

## RES 0603
designator R?, comment 10K
Resistor; Manufacturer: Generic; Part Constraints: 1% 1/10W 100ppm 0603; Assembly Comments: none; Footprint: 0603; Manufacturers Part Number: Generic; Type: Resistor; SupplierUnitCost: 0; Value: 10K
footprint 0603
pins: 1 1 , 2

## RES 0805
designator R?, comment 0
RES 0.0 OHM 1/8W 0805 SMD; Manufacturer: Generic; Part constraints: 1% 100ppm 1/8W 0805; Assembly Comments: none; Manufacturers Part Number: Generic; Type: Resistor; SupplierUnitCost: 0; Value: 0
simulation model RESISTOR (Resistor)
signal-integrity model Res
footprint 0805
pins: 1, 2

## RES 1206
designator R?, comment 0
RES 0.0 OHM 1/8W 1206 SMD; Manufacturer: Generic; Part constraints: 1% 100ppm 1/8W 1206; Assembly Comments: none; Manufacturers Part Number: Generic; Type: Resistor; SupplierUnitCost: 0; Value: 0
simulation model RESISTOR (Resistor)
signal-integrity model Res
footprint Model Name (Footprint not found)
footprint 1206
pins: 1, 2

## Res_Pack
designator RT?, comment 0, EXB-2HVR000V
RES ARRAY 0.0 OHM JUMPER SMD; Manufacturer: Panasonic - ECG; CanPurchaseFrom: Digikey; Footprint: 0402_Array_2HV; Manufacturers P/N: EXB-2HVR000V
footprint 0402_Array_2HV
pins: 1, 2, 3, 4, 5, 6, 7, 8, 9, 10, 11, 12, 13, 14, 15, 16

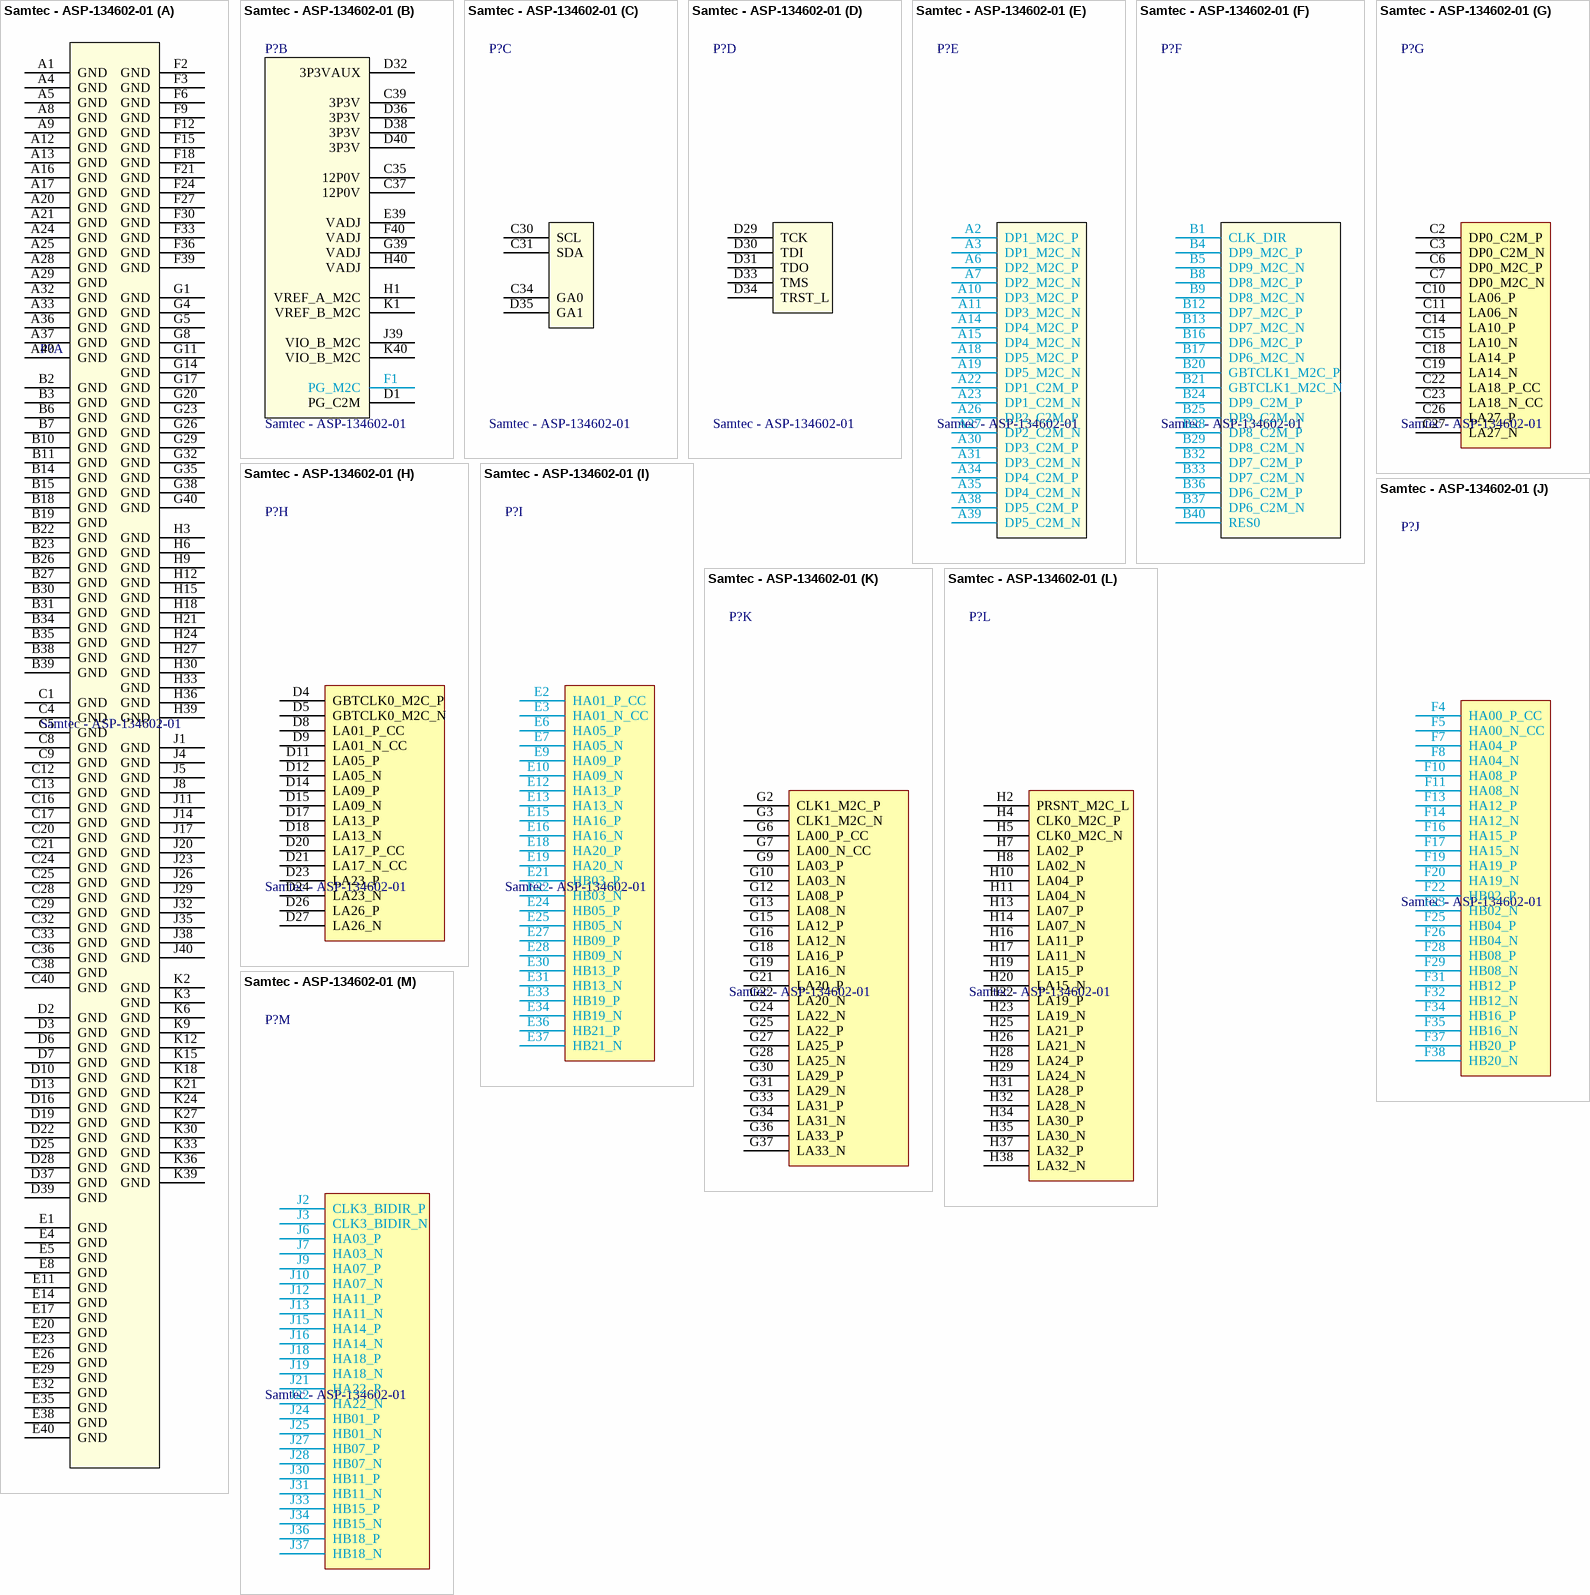
[diagram p3: symbol Samtec - ASP-134602-01]

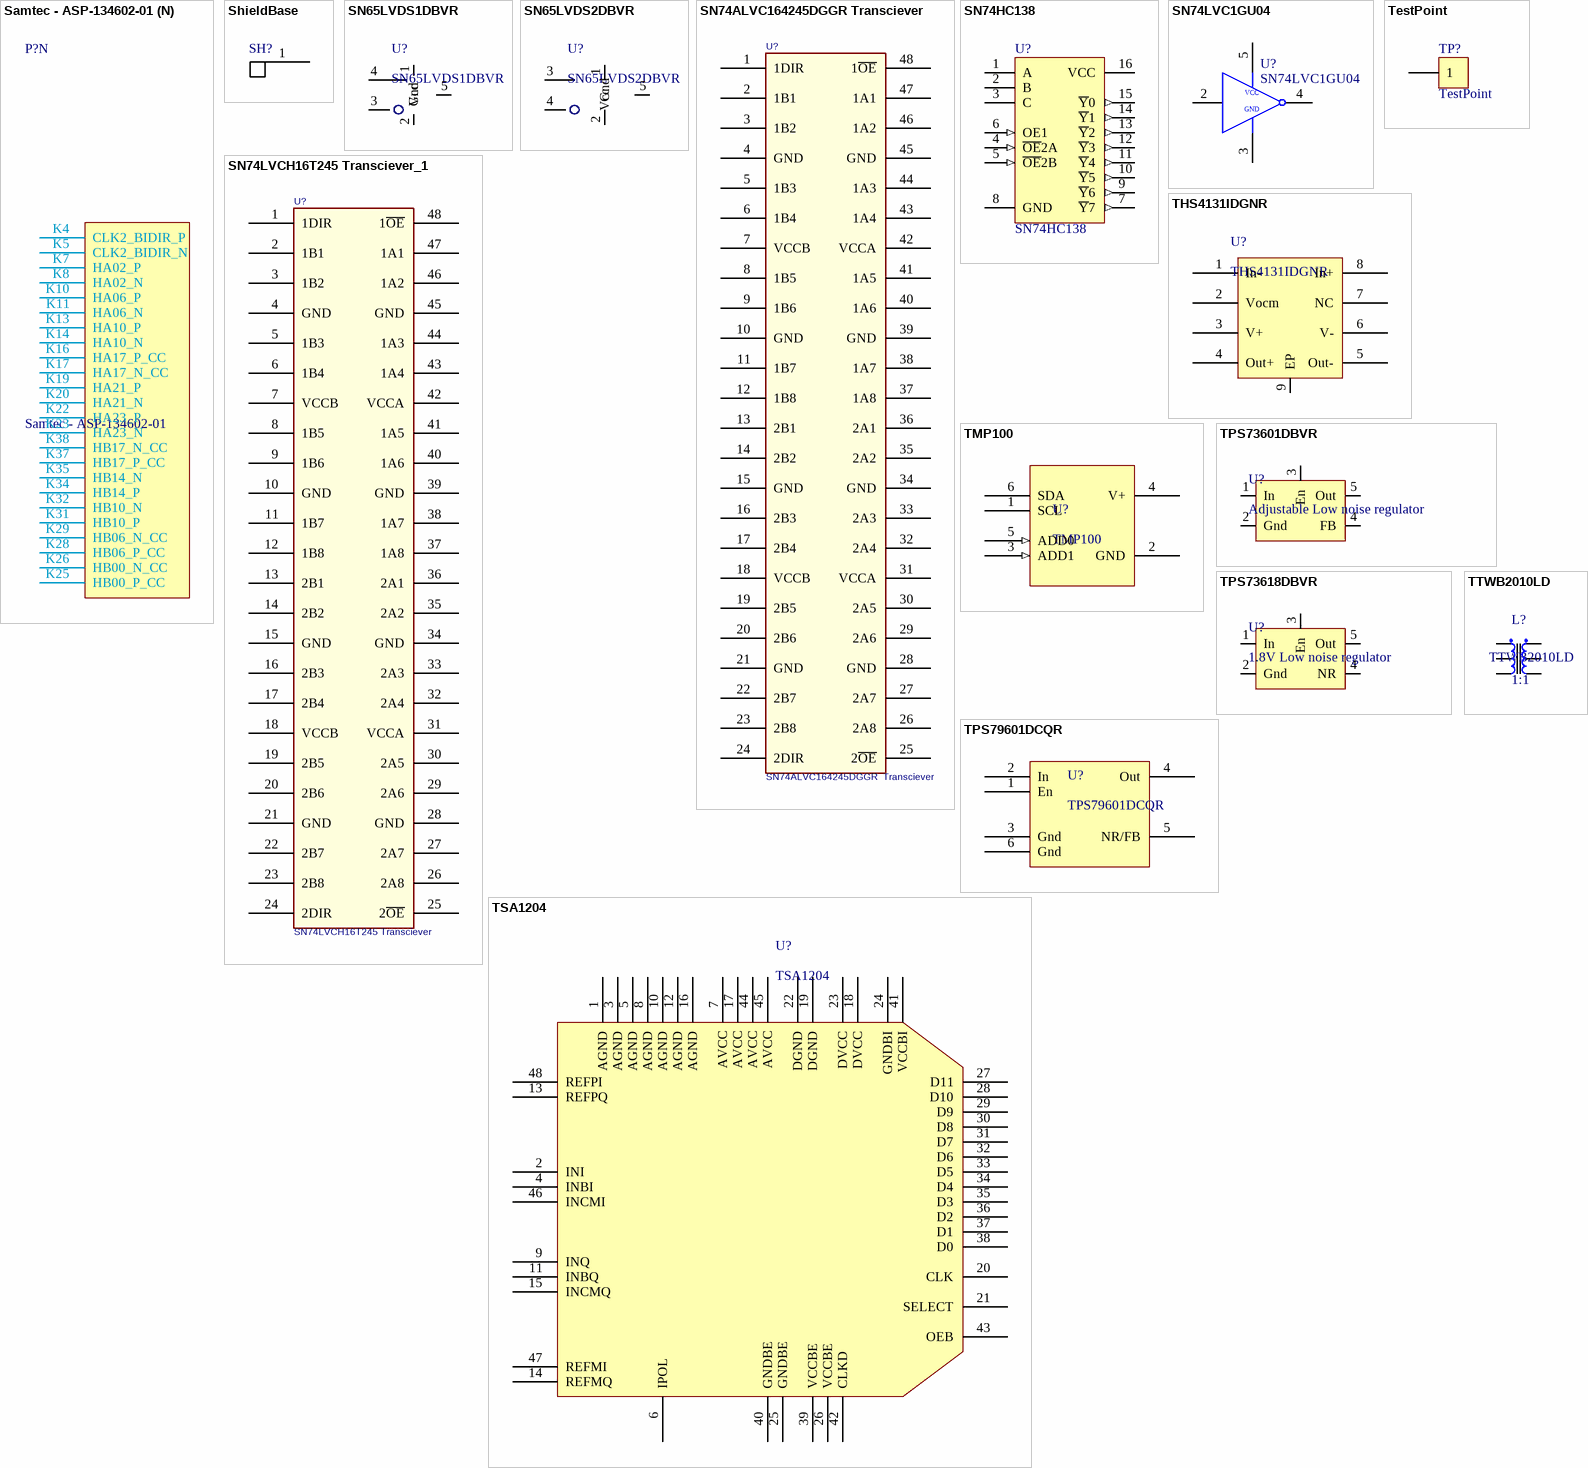
[diagram p4: symbols Samtec - ASP-134602-01 to TTWB2010LD]

## Samtec - ASP-134602-01
designator P?
Samtec ASP-134602-01
footprint FCM-ASP_134602-01 (400pin FCM connector VITA)
part A pins: A1 GND, A4 GND, A5 GND, A8 GND, A9 GND, A12 GND, A13 GND, A16 GND, A17 GND, A20 GND, A21 GND, A24 GND, A25 GND, A28 GND, A29 GND, A32 GND, A33 GND, A36 GND, A37 GND, A40 GND, B2 GND, B3 GND, B6 GND, B7 GND, B10 GND, B11 GND, B14 GND, B15 GND, B18 GND, B19 GND, B22 GND, B23 GND, B26 GND, B27 GND, B30 GND, B31 GND, B34 GND, B35 GND, B38 GND, B39 GND, C1 GND, C4 GND, C5 GND, C8 GND, C9 GND, C12 GND, C13 GND, C16 GND, C17 GND, C20 GND, C21 GND, C24 GND, C25 GND, C28 GND, C29 GND, C32 GND, C33 GND, C36 GND, C38 GND, C40 GND, D2 GND, D3 GND, D6 GND, D7 GND, D10 GND, D13 GND, D16 GND, D19 GND, D22 GND, D25 GND, D28 GND, D37 GND, D39 GND, E1 GND, E4 GND, E5 GND, E8 GND, E11 GND, E14 GND, E17 GND, E20 GND, E23 GND, E26 GND, E29 GND, E32 GND, E35 GND, E38 GND, E40 GND, F2 GND, F3 GND, F6 GND, F9 GND, F12 GND, F15 GND, F18 GND, F21 GND, F24 GND, F27 GND, F30 GND, F33 GND, F36 GND, F39 GND, G1 GND, G4 GND, G5 GND, G8 GND, G11 GND, G14 GND, G17 GND, G20 GND, G23 GND, G26 GND, G29 GND, G32 GND, G35 GND, G38 GND, G40 GND, H3 GND, H6 GND, H9 GND, H12 GND, H15 GND, H18 GND, H21 GND, H24 GND, H27 GND, H30 GND, H33 GND, H36 GND, H39 GND, J1 GND, J4 GND, J5 GND, J8 GND, J11 GND, J14 GND, J17 GND, J20 GND, J23 GND, J26 GND, J29 GND, J32 GND, J35 GND, J38 GND, J40 GND, K2 GND, K3 GND, K6 GND, K9 GND, K12 GND, K15 GND, K18 GND, K21 GND, K24 GND, K27 GND, K30 GND, K33 GND, K36 GND, K39 GND
part B pins: C35 12P0V, C37 12P0V, C39 3P3V, D1 PG_C2M, D32 3P3VAUX, D36 3P3V, D38 3P3V, D40 3P3V, E39 VADJ, F1 PG_M2C, F40 VADJ, G39 VADJ, H1 VREF_A_M2C, H40 VADJ, J39 VIO_B_M2C, K1 VREF_B_M2C, K40 VIO_B_M2C
part C pins: C30 SCL, C31 SDA, C34 GA0, D35 GA1
part D pins: D29 TCK, D30 TDI, D31 TDO, D33 TMS, D34 TRST_L
part E pins: A2 DP1_M2C_P, A3 DP1_M2C_N, A6 DP2_M2C_P, A7 DP2_M2C_N, A10 DP3_M2C_P, A11 DP3_M2C_N, A14 DP4_M2C_P, A15 DP4_M2C_N, A18 DP5_M2C_P, A19 DP5_M2C_N, A22 DP1_C2M_P, A23 DP1_C2M_N, A26 DP2_C2M_P, A27 DP2_C2M_N, A30 DP3_C2M_P, A31 DP3_C2M_N, A34 DP4_C2M_P, A35 DP4_C2M_N, A38 DP5_C2M_P, A39 DP5_C2M_N
part F pins: B1 CLK_DIR, B4 DP9_M2C_P, B5 DP9_M2C_N, B8 DP8_M2C_P, B9 DP8_M2C_N, B12 DP7_M2C_P, B13 DP7_M2C_N, B16 DP6_M2C_P, B17 DP6_M2C_N, B20 GBTCLK1_M2C_P, B21 GBTCLK1_M2C_N, B24 DP9_C2M_P, B25 DP9_C2M_N, B28 DP8_C2M_P, B29 DP8_C2M_N, B32 DP7_C2M_P, B33 DP7_C2M_N, B36 DP6_C2M_P, B37 DP6_C2M_N, B40 RES0
part G pins: C2 DP0_C2M_P, C3 DP0_C2M_N, C6 DP0_M2C_P, C7 DP0_M2C_N, C10 LA06_P, C11 LA06_N, C14 LA10_P, C15 LA10_N, C18 LA14_P, C19 LA14_N, C22 LA18_P_CC, C23 LA18_N_CC, C26 LA27_P, C27 LA27_N
part H pins: D4 GBTCLK0_M2C_P, D5 GBTCLK0_M2C_N, D8 LA01_P_CC, D9 LA01_N_CC, D11 LA05_P, D12 LA05_N, D14 LA09_P, D15 LA09_N, D17 LA13_P, D18 LA13_N, D20 LA17_P_CC, D21 LA17_N_CC, D23 LA23_P, D24 LA23_N, D26 LA26_P, D27 LA26_N
part I pins: E2 HA01_P_CC, E3 HA01_N_CC, E6 HA05_P, E7 HA05_N, E9 HA09_P, E10 HA09_N, E12 HA13_P, E13 HA13_N, E15 HA16_P, E16 HA16_N, E18 HA20_P, E19 HA20_N, E21 HB03_P, E22 HB03_N, E24 HB05_P, E25 HB05_N, E27 HB09_P, E28 HB09_N, E30 HB13_P, E31 HB13_N, E33 HB19_P, E34 HB19_N, E36 HB21_P, E37 HB21_N
part J pins: F4 HA00_P_CC, F5 HA00_N_CC, F7 HA04_P, F8 HA04_N, F10 HA08_P, F11 HA08_N, F13 HA12_P, F14 HA12_N, F16 HA15_P, F17 HA15_N, F19 HA19_P, F20 HA19_N, F22 HB02_P, F23 HB02_N, F25 HB04_P, F26 HB04_N, F28 HB08_P, F29 HB08_N, F31 HB12_P, F32 HB12_N, F34 HB16_P, F35 HB16_N, F37 HB20_P, F38 HB20_N
part K pins: G2 CLK1_M2C_P, G3 CLK1_M2C_N, G6 LA00_P_CC, G7 LA00_N_CC, G9 LA03_P, G10 LA03_N, G12 LA08_P, G13 LA08_N, G15 LA12_P, G16 LA12_N, G18 LA16_P, G19 LA16_N, G21 LA20_P, G22 LA20_N, G24 LA22_N, G25 LA22_P, G27 LA25_P, G28 LA25_N, G30 LA29_P, G31 LA29_N, G33 LA31_P, G34 LA31_N, G36 LA33_P, G37 LA33_N
part L pins: H2 PRSNT_M2C_L, H4 CLK0_M2C_P, H5 CLK0_M2C_N, H7 LA02_P, H8 LA02_N, H10 LA04_P, H11 LA04_N, H13 LA07_P, H14 LA07_N, H16 LA11_P, H17 LA11_N, H19 LA15_P, H20 LA15_N, H22 LA19_P, H23 LA19_N, H25 LA21_P, H26 LA21_N, H28 LA24_P, H29 LA24_N, H31 LA28_P, H32 LA28_N, H34 LA30_P, H35 LA30_N, H37 LA32_P, H38 LA32_N
part M pins: J2 CLK3_BIDIR_P, J3 CLK3_BIDIR_N, J6 HA03_P, J7 HA03_N, J9 HA07_P, J10 HA07_N, J12 HA11_P, J13 HA11_N, J15 HA14_P, J16 HA14_N, J18 HA18_P, J19 HA18_N, J21 HA22_P, J22 HA22_N, J24 HB01_P, J25 HB01_N, J27 HB07_P, J28 HB07_N, J30 HB11_P, J31 HB11_N, J33 HB15_P, J34 HB15_N, J36 HB18_P, J37 HB18_N
part N pins: K4 CLK2_BIDIR_P, K5 CLK2_BIDIR_N, K7 HA02_P, K8 HA02_N, K10 HA06_P, K11 HA06_N, K13 HA10_P, K14 HA10_N, K16 HA17_P_CC, K17 HA17_N_CC, K19 HA21_P, K20 HA21_N, K22 HA23_P, K23 HA23_N, K25 HB00_P_CC, K26 HB00_N_CC, K28 HB06_P_CC, K29 HB06_N_CC, K31 HB10_P, K32 HB10_N, K34 HB14_P, K35 HB14_N, K37 HB17_P_CC, K38 HB17_N_CC

## ShieldBase
designator SH?, comment LeaderTech 20S-CBS-2x0.5x0.2 - DIVIDE QUANITY REQURIED BY 10!  (value not drawn)
Assembly Comments: Solder Fence and Shield together onto board. Shield aids fence allignment.; Part Constraints: LeaderTech 20S-CBS-2x0.5x0.2 - DIVIDE QUANITY REQURIED BY 10!; Manufacturer: LeaderTech; Type: Shield; SupplierUnitCost: 0
footprint SHIELD BASE
footprint SHIELD BASE CORNER
pins: 1

## SN65LVDS1DBVR
designator U?
LVDS Driver; Manufacturer 1: Texas Instruments; Description 1: IC HIGH DIFF LINE DRIVER SOT23-5; Category 1: Integrated Circuits (ICs); Number of Drivers/Receivers: 1/0; Voltage - Supply: 2.4 V ~ 3.6 V; Supplier 1: Digi-Key; Manufacturer Part Number 1: SN65LVDS1DBVR; RoHS 1: RoHS Compliant; Stock 1: 11285; Pricing 1: 1=1.63, 10=1.444, 25=1.3036, 100=1.1406, 250=1.00028, 500=0.8871, 1000=0.70153 (CAD); Packaging: Cut Tape (CT); Type: Line Driver, Transmitter; Protocol: LVDS; Mounting Type: Surface Mount; Package / Case: SC-74A, SOT-753; Supplier Device Package: SOT-23-5; ComponentLink1URL: http://www.ti.com/lit/ds/symlink/sn65lvds1.pdf; ComponentLink1Description: http://www.ti.com/lit/ds/symlink/sn65lvds1.pdf; Supplier Part Number 1: 296-6919-1-ND
footprint SOT23-5
pins: 1 Vcc, 2 Gnd, 3 A, 4 B, 5 R

## SN65LVDS2DBVR
designator U?
LVDS Receiver; Manufacturer 1: Texas Instruments; Description 1: IC DIF LINE DRVR/RCVR HS SOT23-5; Category 1: Integrated Circuits (ICs); Number of Drivers/Receivers: 0/1; Voltage - Supply: 2.4 V ~ 3.6 V; Supplier 1: Digi-Key; Manufacturer Part Number 1: SN65LVDS2DBVR; RoHS 1: RoHS Compliant; Stock 1: 17477; Pricing 1: 1=1.63, 10=1.444, 25=1.3036, 100=1.1406, 250=1.00028, 500=0.8871, 1000=0.70153 (CAD); Packaging: Cut Tape (CT); Type: Line Receiver; Protocol: LVDS; Mounting Type: Surface Mount; Package / Case: SC-74A, SOT-753; Supplier Device Package: SOT-23-5; ComponentLink1URL: http://www.ti.com/lit/ds/symlink/sn65lvds1.pdf; ComponentLink1Description: http://www.ti.com/lit/ds/symlink/sn65lvds1.pdf; Supplier Part Number 1: 296-6920-1-ND
footprint SOT23-5
pins: 1 Vcc, 2 Gnd, 3 A, 4 B, 5 R

## SN74ALVC164245DGGR Transciever
designator U?, comment SN74ALVC164245DGGR  Transciever
SN74ALVC164245DGGR Transciever
footprint TSSOP48-0.5mmpitch
pins: 1 1DIR, 2 1B1, 3 1B2, 4 GND, 5 1B3, 6 1B4, 7 VCCB, 8 1B5, 9 1B6, 10 GND, 11 1B7, 12 1B8, 13 2B1, 14 2B2, 15 GND, 16 2B3, 17 2B4, 18 VCCB, 19 2B5, 20 2B6, 21 GND, 22 2B7, 23 2B8, 24 2DIR, 25 2~{OE}, 26 2A8, 27 2A7, 28 GND, 29 2A6, 30 2A5, 31 VCCA, 32 2A4, 33 2A3, 34 GND, 35 2A2, 36 2A1, 37 1A8, 38 1A7, 39 GND, 40 1A6, 41 1A5, 42 VCCA, 43 1A4, 44 1A3, 45 GND, 46 1A2, 47 1A1, 48 1~{OE}

## SN74HC138
designator U?
3-to-8 Line Decoder Inverting IC DECODER/DEMUX 16-SSOP; Manufacturers Part Number: SN74HC138DBR; Manufacturer: Texas Instruments; Assembly Comments: none; Part constraints: SN74HC138DBR; Type: IC; SupplierUnitCost: $0.60; Supplier 1: Digi-Key; Supplier Part Number 1: 296-8227-1-ND
footprint SOP16-5.6mmWideBody
pins: 1 A, 2 B, 3 C, 4 ~{OE}2A (in), 5 ~{OE}2B (in), 6 OE1 (in), 7 ~{Y}7 (out), 8 GND (power), 9 ~{Y}6 (out), 10 ~{Y}5 (out), 11 ~{Y}4 (out), 12 ~{Y}3 (out), 13 ~{Y}2 (out), 14 ~{Y}1 (out), 15 ~{Y}0 (out), 16 VCC (power)

## SN74LVC1GU04
designator U?
Single Inverter; Manufacturer: Texas Instruments; Part Constraints: SN74LVC1GU04DBVR; Assembly Comments: none; Manufacturers Part Number: SN74LVC1GU04DBVR; SupplierUnitCost: $0.45; Type: IC; Supplier 1: Digi-Key; Supplier Part Number 1: 296-28013-1-ND
footprint SOT23-5
pins: 2 A, 3 Gnd (power), 4 Y, 5 Vcc (power)
text: VCC; GND

## SN74LVCH16T245 Transciever_1
designator U?, comment SN74LVCH16T245 Transciever
Manufacturer: Texas Instruments; Assembly Comments: none; Description 2: IC TRANSCVR TRI-ST 16BIT 48TSSOP; Category 2: Integrated Circuits (ICs); Logic Function: Translator, Bidirectional, 3-State; Number of Bits: 16; Input Type: Logic; Number of Channels: 2; Number of Outputs/Channel: 8; Differential - Input:Output: No/No; Propagation Delay (Max): 5.8ns; Voltage - Supply: 2.3 V ~ 3.6 V, 3 V ~ 5.5 V; Part Constraints: SN74LVCH16T245; Manufacturers Part Number: SN74LVCH16T245; Type: IC; Supplier 1: Digi-Key; Supplier Part Number 1: 296-27606-6-ND; Supplier 2: Digi-Key; Manufacturer 2: Texas Instruments; Manufacturer Part Number 2: SN74ALVC164245DGGR; RoHS 2: RoHS Compliant; Stock 2: 14390; Pricing 2: 1=1.54, 10=1.363, 25=1.2308, 100=1.0772, 250=0.94468, 500=0.83782, 1000=0.66256 (CAD); Output Type: Logic; Data Rate: -; Operating Temperature: -40°C ~ 85°C; Package / Case: 48-TFSOP (0.240", 6.10mm Width); Supplier Device Package: 48-TSSOP; Packaging: Cut Tape (CT); ComponentLink1URL: http://www.ti.com/lit/ds/symlink/sn74alvc164245.pdf; ComponentLink1Description: http://www.ti.com/lit/ds/symlink/sn74alvc164245.pdf; Supplier Part Number 2: 296-1135-1-ND
footprint TSSOP48-0.5mmpitch
pins: 1 1DIR, 2 1B1, 3 1B2, 4 GND, 5 1B3, 6 1B4, 7 VCCB, 8 1B5, 9 1B6, 10 GND, 11 1B7, 12 1B8, 13 2B1, 14 2B2, 15 GND, 16 2B3, 17 2B4, 18 VCCB, 19 2B5, 20 2B6, 21 GND, 22 2B7, 23 2B8, 24 2DIR, 25 2~{OE}, 26 2A8, 27 2A7, 28 GND, 29 2A6, 30 2A5, 31 VCCA, 32 2A4, 33 2A3, 34 GND, 35 2A2, 36 2A1, 37 1A8, 38 1A7, 39 GND, 40 1A6, 41 1A5, 42 VCCA, 43 1A4, 44 1A3, 45 GND, 46 1A2, 47 1A1, 48 1~{OE}

## TestPoint
designator TP?  (no BOM)
TestPoint1; Assembly Comments: none; Footprint: *; Type: Test Point; SupplierUnitCost: 0
footprint TP-3520-SK
pins: 1

## THS4131IDGNR
designator U?
IC OPAMP DIFF 225MHZ SGL 8MSOP; Manufacturer 1: Texas Instruments; Category 1: Integrated Circuits (ICs); Amplifier Type: Differential; Number of Circuits: 1; Slew Rate: 52 V/µs; -3db Bandwidth: 150MHz; Current - Input Bias: 2µA; Voltage - Input Offset: 200µV; Current - Supply: 12.3mA; Current - Output / Channel: 85mA; Voltage - Supply, Single/Dual (±): 4 V ~ 33 V, ±2 V ~ 16.5 V; Type: IC; Supplier 1: Digi-Key; Manufacturer Part Number 1: THS4131IDGNR; RoHS 1: RoHS Compliant; Description 1: IC OPAMP DIFF 225MHZ SGL 8MSOP; Stock 1: 6265; Pricing 1: 1=7.86, 10=7.07, 25=6.43, 100=4.114, 250=4.0378, 500=3.96162, 750=3.88543 (CAD); Output Type: Differential; Gain Bandwidth Product: 225MHz; Operating Temperature: -40°C ~ 85°C; Mounting Type: Surface Mount; Package / Case: 8-TSSOP, 8-MSOP (0.118", 3.00mm Width) Exposed Pad; Supplier Device Package: 8-MSOP-PowerPad; Packaging: Cut Tape (CT); ComponentLink1URL: http://www.ti.com/lit/ds/symlink/ths4131.pdf; ComponentLink1Description: http://www.ti.com/lit/ds/symlink/ths4131.pdf; Supplier Part Number 1: 296-10047-1-ND
footprint SOP8-EP-127P600-8N (SOP8 package for THS4131IDGNR)
pins: 1 In-, 2 Vocm, 3 V+, 4 Out+, 5 Out-, 6 V-, 7 NC, 8 In+, 9 EP
1 alternate drawing of the same symbol

## TMP100
designator U?
Digital Temperature Sensor with I2C Interface
pins: 1 SCL (oc), 2 GND (power), 3 ADD1 (in), 4 V+ (power), 5 ADD0 (in), 6 SDA (oc)

## TPS73601DBVR
designator U?, comment Adjustable Low noise regulator
Adjustable 30uVrms noise 400mA regulator; Manufacturer 1: Texas Instruments; Manufacturer Part Number 1: TPS73601DBVT; Description 1: IC REG LDO ADJ 0.4A SOT23-5; Category 1: Integrated Circuits (ICs); Regulator Topology: Positive Adjustable; Voltage - Output: 1.2 V ~ 5.5 V; Voltage - Input: 1.7 V ~ 5.5 V; Voltage - Dropout (Typical): 0.075V @ 400mA; Number of Regulators: 1; Current - Output: 400mA (Max); Supplier 1: Digi-Key; RoHS 1: RoHS Compliant; Stock 1: 681; Pricing 1: 1=2.82, 10=2.551, 25=2.2848, 100=1.1955 (CAD); Current - Limit (Min): 400mA; Operating Temperature: -40°C ~ 125°C; Mounting Type: Surface Mount; Package / Case: SC-74A, SOT-753; Supplier Device Package: SOT-23-5; Packaging: Cut Tape (CT); ComponentLink1URL: http://www.ti.com/lit/ds/symlink/tps73601.pdf; ComponentLink1Description: http://www.ti.com/lit/ds/symlink/tps73601.pdf; Supplier Part Number 1: 296-15814-1-ND
footprint SOT23-5
pins: 1 In, 2 Gnd, 3 En, 4 FB, 5 Out

## TPS73618DBVR
designator U?, comment 1.8V Low noise regulator
Fixed 1.8V 10uVrms noise 400mA regulator; Manufacturer 1: Texas Instruments; Manufacturer Part Number 1: TPS73618DBVR; Description 1: IC REG LDO 1.8V 0.4A SOT23-5; Category 1: Integrated Circuits (ICs); Regulator Topology: Positive Fixed; Voltage - Input: Up to 5.5V; Voltage - Dropout (Typical): 0.075V @ 400mA; Number of Regulators: 1; Current - Output: 400mA (Max); Supplier 1: Digi-Key; RoHS 1: RoHS Compliant; Stock 1: 6867; Pricing 1: 1=2.35, 10=2.125, 25=1.904, 100=0.9963, 250=0.97776, 500=0.95932, 750=0.94088 (CAD); Voltage - Output: 1.8V; Current - Limit (Min): 400mA; Operating Temperature: -40°C ~ 125°C; Mounting Type: Surface Mount; Package / Case: SC-74A, SOT-753; Supplier Device Package: SOT-23-5; Packaging: Cut Tape (CT); ComponentLink1URL: http://www.ti.com/lit/ds/symlink/tps73601.pdf; ComponentLink1Description: http://www.ti.com/lit/ds/symlink/tps73601.pdf; Supplier Part Number 1: 296-27063-1-ND
footprint SOT23-5
pins: 1 In, 2 Gnd, 3 En, 4 NR, 5 Out

## TPS79601DCQR
designator U?
IC LDO REG ADJ 1A SOT223-6; Manufacturer: Texas Instruments; Assembly Comments: none; Manufacturers Part Number: TPS79601DCQR; Part Constraints: TPS79601DCQR; Type: IC; SupplierUnitCost: $3.54
footprint SOT223-6 (SOT223, 6-Leads, Body 6.6x7.3mm (max), Pitch 1.27mm, IPC Medium Density)
pins: 1 En, 2 In, 3 Gnd, 4 Out, 5 NR/FB, 6 Gnd

## TSA1204
designator U?
ADC 2-Channel 12bit; Part Constraints: TSA1204IFT; Manufacturer: STMicroelectronics; Assembly Comments: none; Manufacturers Part Number: TSA1204IFT; Supplier 1: Digi-Key; Supplier Part Number 1: 497-5435-1-ND; Type: IC; SupplierUnitCost: $23.95
footprint TSQFP50P900X900X160-48N (TSQFP, 48-Leads, Body 9.1x9.1mm (max), Pitch 0.50mm, IPC Medium Density)
pins: 1 AGND, 2 INI, 3 AGND, 4 INBI, 5 AGND, 6 IPOL, 7 AVCC, 8 AGND, 9 INQ, 10 AGND, 11 INBQ, 12 AGND, 13 REFPQ, 14 REFMQ, 15 INCMQ, 16 AGND, 17 AVCC, 18 DVCC, 19 DGND, 20 CLK, 21 SELECT, 22 DGND, 23 DVCC, 24 GNDBI, 25 GNDBE, 26 VCCBE, 27 D11, 28 D10, 29 D9, 30 D8, 31 D7, 32 D6, 33 D5, 34 D4, 35 D3, 36 D2, 37 D1, 38 D0, 39 VCCBE, 40 GNDBE, 41 VCCBI, 42 CLKD, 43 OEB, 44 AVCC, 45 AVCC, 46 INCMI, 47 REFMI, 48 REFPI

## TTWB2010LD
designator L?
Transformer; Manufacturer: Coil Craft; Assembly Comments: none; Manufacturers Part Number: TTWB2010LD; Part Constraints: TTWB2010LD; Supplier 1: Coil Craft; Supplier Part Number 1: TTWB2010LD; SupplierUnitCost: $3.25
footprint TTWB (Transformer)
pins: 1 PrimDot, 2 PrimCent, 3 Prim, 4 Sec, 5 SecCent, 6 SecDot
text: 1:1